# Altium schematic symbol library Interface_USB.SchLib: 96 symbols (part 1 of 2)
Pins are listed as number, name and electrical type; pins without a type are passive.

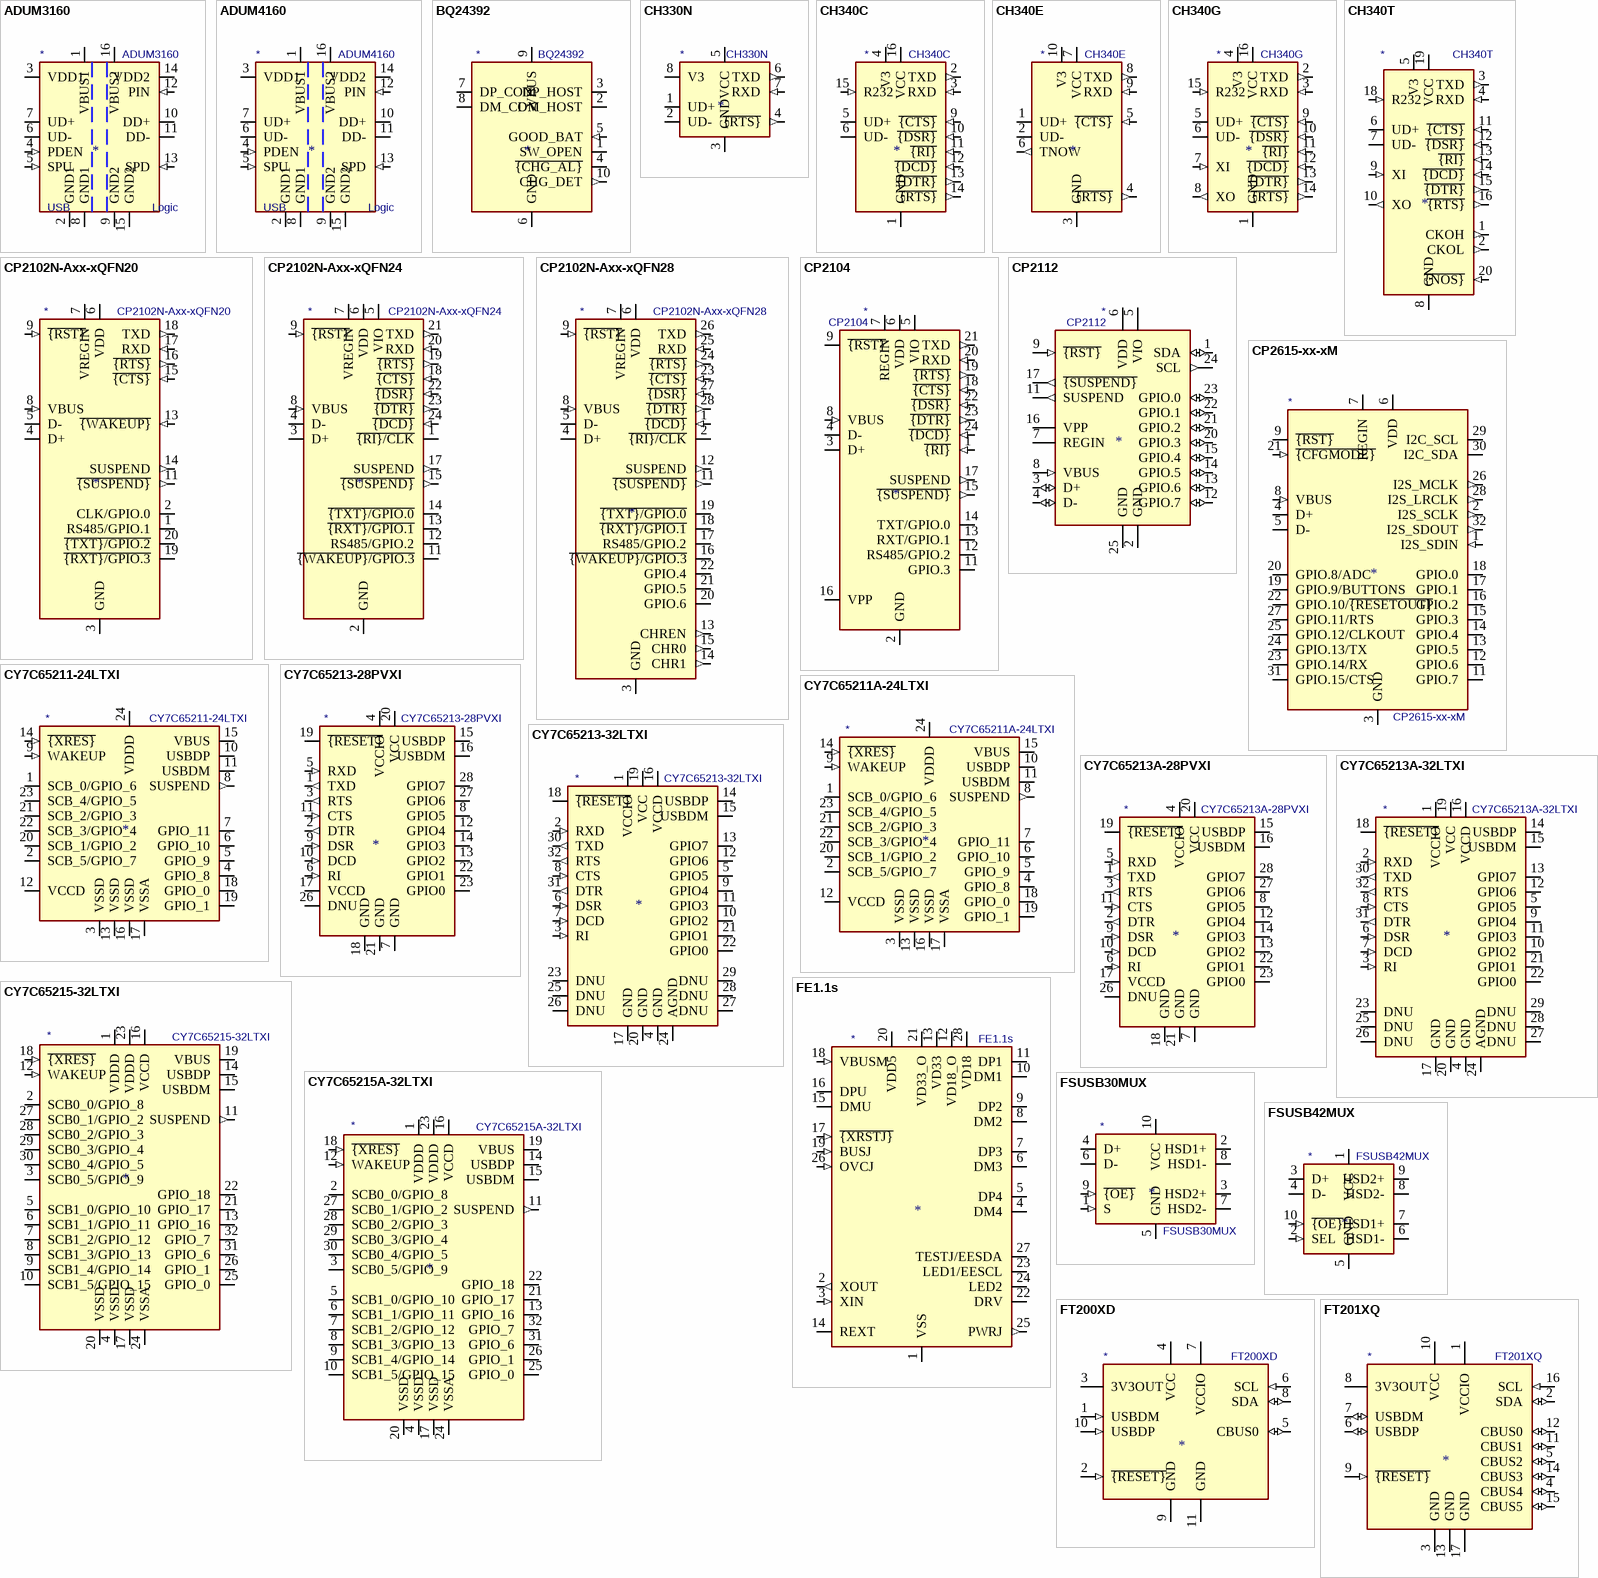
[diagram p0: symbols ADUM3160 to FT201XQ]

## ADUM3160
designator *  value ADUM3160
ki_keywords: usb isolation; ki_description: Full/Low Speed, iCoupler USB Digital Isolator, 2.5kV protection; ki_fp_filters: SOIC*7.5x10.3mm*P1.27mm*; Footprint: Package_SO:SOIC-16W_7.5x10.3mm_P1.27mm; Supplier: https://www.analog.com/media/en/technical-documentation/data-sheets/ADuM3160.pdf
footprint SOIC-16W_7.5x10.3mm_P1.27mm
pins: 1 VBUS1 (power), 2 GND1 (power), 3 VDD1 (power), 4 PDEN (in), 5 SPU (in), 6 UD- (io), 7 UD+ (io), 8 GND1 (power), 9 GND2 (power), 10 DD+ (io), 11 DD- (io), 12 PIN (in), 13 SPD (in), 14 VDD2 (power), 15 GND2 (power), 16 VBUS2 (power)
text: USB; Logic

## ADUM4160
designator *  value ADUM4160
ki_keywords: usb isolation; ki_description: Full/Low Speed, iCoupler USB Digital Isolator, 5kV protection, SOIC-16; ki_fp_filters: SOIC*7.5x10.3mm*P1.27mm*; Footprint: Package_SO:SOIC-16W_7.5x10.3mm_P1.27mm; Supplier: https://www.analog.com/media/en/technical-documentation/data-sheets/ADuM4160.pdf
footprint SOIC-16W_7.5x10.3mm_P1.27mm
pins: 1 VBUS1 (power), 2 GND1 (power), 3 VDD1 (power), 4 PDEN (in), 5 SPU (in), 6 UD- (io), 7 UD+ (io), 8 GND1 (power), 9 GND2 (power), 10 DD+ (io), 11 DD- (io), 12 PIN (in), 13 SPD (in), 14 VDD2 (power), 15 GND2 (power), 16 VBUS2 (power)
text: USB; Logic

## BQ24392
designator *  value BQ24392
ki_keywords: USB BC detector charger; ki_description: Dual SPST USB 2.0 High Speed Switch with USB Battery Charging Specification Revision 1.2 Detection, UQFN-10; ki_fp_filters: Texas*R*PUQFN*; Footprint: Package_DFN_QFN:Texas_R-PUQFN-N10; Supplier: http://www.ti.com/lit/ds/symlink/bq24392.pdf
footprint Texas_R-PUQFN-N10
pins: 1 SW_OPEN (oc), 2 DM_HOST (io), 3 DP_HOST (io), 4 ~{{CHG_AL}} (oc), 5 GOOD_BAT (in), 6 GND (power), 7 DP_CON (io), 8 DM_CON (io), 9 VBUS (power), 10 CHG_DET (out)

## CH330N
designator *  value CH330N
ki_keywords: usb uart wch serial; ki_description: USB serial converter, UART, SOIC-8; ki_fp_filters: SOIC*3.9x4.9mm*P1.27mm*; Footprint: Package_SO:SOIC-8_3.9x4.9mm_P1.27mm; Supplier: http://www.wch.cn/downloads/file/240.html
footprint SOIC-8_3.9x4.9mm_P1.27mm
pins: 1 UD+ (io), 2 UD- (io), 3 GND (power), 4 ~{{RTS}} (out), 5 VCC (power), 6 TXD (out), 7 RXD (in), 8 V3

## CH340C
designator *  value CH340C
ki_keywords: USB UART Serial Converter Interface; ki_description: USB serial converter, UART, SOIC-16; ki_fp_filters: SOIC*3.9x9.9mm*P1.27mm*; Footprint: Package_SO:SOIC-16_3.9x9.9mm_P1.27mm; Supplier: https://datasheet.lcsc.com/szlcsc/Jiangsu-Qin-Heng-CH340C_C84681.pdf
footprint SOIC-16_3.9x9.9mm_P1.27mm
pins: 1 GND (power), 2 TXD (out), 3 RXD (in), 4 V3, 5 UD+ (io), 6 UD- (io), 7 NC (in) hidden, 8 NC (in) hidden, 9 ~{{CTS}} (in), 10 ~{{DSR}} (in), 11 ~{{RI}} (in), 12 ~{{DCD}} (in), 13 ~{{DTR}} (out), 14 ~{{RTS}} (out), 15 R232 (in), 16 VCC (power)

## CH340E
designator *  value CH340E
ki_keywords: USB UART Serial Converter Interface; ki_description: USB serial converter, UART, MSOP-10; ki_fp_filters: MSOP*3x3mm*P0.5mm*; Footprint: Package_SO:MSOP-10_3x3mm_P0.5mm; Supplier: https://www.mpja.com/download/35227cpdata.pdf
footprint MSOP-10_3x3mm_P0.5mm
pins: 1 UD+ (io), 2 UD- (io), 3 GND (power), 4 ~{{RTS}} (out), 5 ~{{CTS}} (in), 6 TNOW (out), 7 VCC (power), 8 TXD (out), 9 RXD (in), 10 V3

## CH340G
designator *  value CH340G
ki_keywords: USB UART Serial Converter Interface; ki_description: USB serial converter, UART, SOIC-16; ki_fp_filters: SOIC*3.9x9.9mm*P1.27mm*; Footprint: Package_SO:SOIC-16_3.9x9.9mm_P1.27mm; Supplier: http://www.datasheet5.com/pdf-local-2195953
footprint SOIC-16_3.9x9.9mm_P1.27mm
pins: 1 GND (power), 2 TXD (out), 3 RXD (in), 4 V3, 5 UD+ (io), 6 UD- (io), 7 XI (in), 8 XO (out), 9 ~{{CTS}} (in), 10 ~{{DSR}} (in), 11 ~{{RI}} (in), 12 ~{{DCD}} (in), 13 ~{{DTR}} (out), 14 ~{{RTS}} (out), 15 R232 (in), 16 VCC (power)

## CH340T
designator *  value CH340T
ki_keywords: USB UART Serial Converter Interface; ki_description: USB serial converter, UART, SSOP-20; ki_fp_filters: SSOP*5.3x7.2mm*P0.65mm*; Footprint: Package_SO:SSOP-20_5.3x7.2mm_P0.65mm; Supplier: https://cdn.sparkfun.com/datasheets/Dev/Arduino/Other/CH340DS1.PDF
footprint SSOP-20_5.3x7.2mm_P0.65mm
pins: 1 CKOH (out), 2 CKOL (out), 3 TXD (out), 4 RXD (in), 5 V3, 6 UD+ (io), 7 UD- (io), 8 GND (power), 9 XI (in), 10 XO (out), 11 ~{{CTS}} (in), 12 ~{{DSR}} (in), 13 ~{{RI}} (in), 14 ~{{DCD}} (in), 15 ~{{DTR}} (out), 16 ~{{RTS}} (out), 17 NC (in) hidden, 18 R232 (in), 19 VCC (power), 20 ~{{NOS}} (in)

## CP2102N-Axx-xQFN20
designator *  value CP2102N-Axx-xQFN20
ki_keywords: USB UART bridge; ki_description: USB to UART master bridge, QFN-20; ki_fp_filters: SiliconLabs*QFN*3x3mm*P0.5mm*; Footprint: Package_DFN_QFN:SiliconLabs_QFN-20-1EP_3x3mm_P0.5mm; Supplier: https://www.silabs.com/documents/public/data-sheets/cp2102n-datasheet.pdf
footprint SiliconLabs_QFN-20-1EP_3x3mm_P0.5mm
pins: 1 RS485/GPIO.1 (io), 2 CLK/GPIO.0 (io), 3 GND (power), 4 D+ (io), 5 D- (io), 6 VDD (power), 7 VREGIN (power), 8 VBUS (in), 9 ~{{RST}} (in), 10 NC (in) hidden, 11 ~{{SUSPEND}} (out), 12 GND hidden, 13 ~{{WAKEUP}} (in), 14 SUSPEND (out), 15 ~{{CTS}} (in), 16 ~{{RTS}} (out), 17 RXD (in), 18 TXD (out), 19 ~{{RXT}/GPIO.3} (io), 20 ~{{TXT}/GPIO.2} (io), 21 GND hidden

## CP2102N-Axx-xQFN24
designator *  value CP2102N-Axx-xQFN24
ki_keywords: USB UART bridge; ki_description: USB to UART master bridge, QFN-24; ki_fp_filters: QFN*4x4mm*P0.5mm*; Footprint: Package_DFN_QFN:QFN-24-1EP_4x4mm_P0.5mm_EP2.6x2.6mm; Supplier: https://www.silabs.com/documents/public/data-sheets/cp2102n-datasheet.pdf
footprint QFN-24-1EP_4x4mm_P0.5mm_EP2.6x2.6mm
pins: 1 ~{{RI}/CLK} (io), 2 GND (power), 3 D+ (io), 4 D- (io), 5 VIO (power), 6 VDD (power), 7 VREGIN (power), 8 VBUS (in), 9 ~{{RST}} (in), 10 NC (in) hidden, 11 ~{{WAKEUP}/GPIO.3} (io), 12 RS485/GPIO.2 (io), 13 ~{{RXT}/GPIO.1} (io), 14 ~{{TXT}/GPIO.0} (io), 15 ~{{SUSPEND}} (out), 16 NC (in) hidden, 17 SUSPEND (out), 18 ~{{CTS}} (in), 19 ~{{RTS}} (out), 20 RXD (in), 21 TXD (out), 22 ~{{DSR}} (in), 23 ~{{DTR}} (out), 24 ~{{DCD}} (in), 25 GND hidden

## CP2102N-Axx-xQFN28
designator *  value CP2102N-Axx-xQFN28
ki_keywords: USB UART bridge; ki_description: USB to UART master bridge, QFN-28; ki_fp_filters: QFN*1EP*5x5mm*P0.5mm*; Footprint: Package_DFN_QFN:QFN-28-1EP_5x5mm_P0.5mm_EP3.35x3.35mm; Supplier: https://www.silabs.com/documents/public/data-sheets/cp2102n-datasheet.pdf
footprint QFN-28-1EP_5x5mm_P0.5mm_EP3.35x3.35mm
pins: 1 ~{{DCD}} (in), 2 ~{{RI}/CLK} (io), 3 GND (power), 4 D+ (io), 5 D- (io), 6 VDD (power), 7 VREGIN (power), 8 VBUS (in), 9 ~{{RST}} (in), 10 NC (in) hidden, 11 ~{{SUSPEND}} (out), 12 SUSPEND (out), 13 CHREN (out), 14 CHR1 (out), 15 CHR0 (out), 16 ~{{WAKEUP}/GPIO.3} (io), 17 RS485/GPIO.2 (io), 18 ~{{RXT}/GPIO.1} (io), 19 ~{{TXT}/GPIO.0} (io), 20 GPIO.6 (io), 21 GPIO.5 (io), 22 GPIO.4 (io), 23 ~{{CTS}} (in), 24 ~{{RTS}} (out), 25 RXD (in), 26 TXD (out), 27 ~{{DSR}} (in), 28 ~{{DTR}} (out), 29 GND hidden

## CP2104
designator *  value CP2104
ki_keywords: uart usb bridge interface transceiver; ki_description: Single-Chip USB-to-UART Bridge, USB 2.0 Full-Speed, 2Mbps UART, QFN-24; ki_fp_filters: QFN*4x4mm*P0.5mm*; Footprint: Package_DFN_QFN:QFN-24-1EP_4x4mm_P0.5mm_EP2.6x2.6mm; Supplier: https://www.silabs.com/documents/public/data-sheets/cp2104.pdf
footprint QFN-24-1EP_4x4mm_P0.5mm_EP2.6x2.6mm
pins: 1 ~{{RI}} (in), 2 GND (power), 3 D+ (io), 4 D- (io), 5 VIO (power), 6 VDD (power), 7 REGIN (power), 8 VBUS (in), 9 ~{{RST}} (io), 10 NC (in) hidden, 11 GPIO.3 (io), 12 RS485/GPIO.2 (io), 13 RXT/GPIO.1 (io), 14 TXT/GPIO.0 (io), 15 ~{{SUSPEND}} (out), 16 VPP, 17 SUSPEND (out), 18 ~{{CTS}} (in), 19 ~{{RTS}} (out), 20 RXD (in), 21 TXD (out), 22 ~{{DSR}} (in), 23 ~{{DTR}} (out), 24 ~{{DCD}} (in), 25 GND hidden

## CP2112
designator *  value CP2112
ki_keywords: USB SMBUS bridge; ki_description: HID USB to SMBUS master bridge; ki_fp_filters: QFN*4x4mm*P0.5mm*; Footprint: Package_DFN_QFN:QFN-24-1EP_4x4mm_P0.5mm_EP2.6x2.6mm; Supplier: https://www.silabs.com/documents/public/data-sheets/cp2112-datasheet.pdf
footprint QFN-24-1EP_4x4mm_P0.5mm_EP2.6x2.6mm
pins: 1 SDA (io), 2 GND (power), 3 D+ (io), 4 D- (io), 5 VIO (power), 6 VDD (power), 7 REGIN (power), 8 VBUS (in), 9 ~{{RST}} (in), 10 NC (in) hidden, 11 SUSPEND (out), 12 GPIO.7 (io), 13 GPIO.6 (io), 14 GPIO.5 (io), 15 GPIO.4 (io), 16 VPP (power), 17 ~{{SUSPEND}} (out), 18 NC (in) hidden, 19 NC (in) hidden, 20 GPIO.3 (io), 21 GPIO.2 (io), 22 GPIO.1 (io), 23 GPIO.0 (io), 24 SCL (out), 25 GND (power)

## CP2615-xx-xM
designator *  value CP2615-xx-xM
ki_keywords: usb i2s i2c uart audio bridge hid gpio; ki_description: USB to I2S bridge, USB 1.0 Audio Class, QFN-32; ki_fp_filters: QFN*1EP*5x5mm*P0.5mm*; Footprint: Package_DFN_QFN:QFN-32-1EP_5x5mm_P0.5mm_EP3.3x3.3mm; Supplier: https://www.silabs.com/documents/public/data-sheets/cp2615-datasheet.pdf
footprint QFN-32-1EP_5x5mm_P0.5mm_EP3.3x3.3mm
pins: 1 I2S_SDIN (in), 2 I2S_SCLK (out), 3 GND (power), 4 D+ (io), 5 D- (io), 6 VDD (power), 7 REGIN (power), 8 VBUS (in), 9 ~{{RST}} (io), 10 NC (in) hidden, 11 GPIO.7 (io), 12 GPIO.6 (io), 13 GPIO.5 (io), 14 GPIO.4 (io), 15 GPIO.3 (io), 16 GPIO.2 (io), 17 GPIO.1 (io), 18 GPIO.0 (io), 19 GPIO.9/BUTTONS (io), 20 GPIO.8/ADC (io), 21 ~{{CFGMODE}} (in), 22 GPIO.10/~{{RESETOUT}} (io), 23 GPIO.14/RX (io), 24 GPIO.13/TX (io), 25 GPIO.12/CLKOUT (io), 26 I2S_MCLK (out), 27 GPIO.11/RTS (io), 28 I2S_LRCLK (out), 29 I2C_SCL (io), 30 I2C_SDA (io), 31 GPIO.15/CTS (io), 32 I2S_SDOUT (out), 33 GND hidden

## CY7C65211-24LTXI
designator *  value CY7C65211-24LTXI
ki_keywords: USB-Serial single channel bridge; ki_description: USB-Serial single channel bridge with capsense and BCD, +1.71V to +5.5V VDD, UART/I2C/SPI/RS232/RS422, QFN-24; ki_fp_filters: QFN*1EP*4x4mm*P0.5mm*; Footprint: Package_DFN_QFN:QFN-24-1EP_4x4mm_P0.5mm_EP2.6x2.6mm; Supplier: http://www.cypress.com/file/139886/download
footprint QFN-24-1EP_4x4mm_P0.5mm_EP2.6x2.6mm
pins: 1 SCB_0/GPIO_6 (io), 2 SCB_5/GPIO_7 (io), 3 VSSD (power), 4 GPIO_8 (hiz), 5 GPIO_9 (hiz), 6 GPIO_10 (hiz), 7 GPIO_11 (hiz), 8 SUSPEND (out), 9 WAKEUP (in), 10 USBDP (io), 11 USBDM (io), 12 VCCD (power), 13 VSSD (power), 14 ~{{XRES}} (in), 15 VBUS (power), 16 VSSD (power), 17 VSSA (power), 18 GPIO_0 (hiz), 19 GPIO_1 (hiz), 20 SCB_1/GPIO_2 (io), 21 SCB_2/GPIO_3 (io), 22 SCB_3/GPIO_4 (io), 23 SCB_4/GPIO_5 (io), 24 VDDD (power), 25 1EP (in) hidden

## CY7C65211A-24LTXI
designator *  value CY7C65211A-24LTXI
ki_keywords: USB-Serial single channel bridge; ki_description: USB-Serial single channel bridge with capsense and BCD, +1.71V to +5.5V VDD, UART/I2C/SPI/RS232/RS422/RS485, QFN-24; ki_fp_filters: QFN*1EP*4x4mm*P0.5mm*; Footprint: Package_DFN_QFN:QFN-24-1EP_4x4mm_P0.5mm_EP2.6x2.6mm; Supplier: http://www.cypress.com/file/139886/download
footprint QFN-24-1EP_4x4mm_P0.5mm_EP2.6x2.6mm
pins: 1 SCB_0/GPIO_6 (io), 2 SCB_5/GPIO_7 (io), 3 VSSD (power), 4 GPIO_8 (hiz), 5 GPIO_9 (hiz), 6 GPIO_10 (hiz), 7 GPIO_11 (hiz), 8 SUSPEND (out), 9 WAKEUP (in), 10 USBDP (io), 11 USBDM (io), 12 VCCD (power), 13 VSSD (power), 14 ~{{XRES}} (in), 15 VBUS (power), 16 VSSD (power), 17 VSSA (power), 18 GPIO_0 (hiz), 19 GPIO_1 (hiz), 20 SCB_1/GPIO_2 (io), 21 SCB_2/GPIO_3 (io), 22 SCB_3/GPIO_4 (io), 23 SCB_4/GPIO_5 (io), 24 VDDD (power), 25 1EP (in) hidden

## CY7C65213-28PVXI
designator *  value CY7C65213-28PVXI
ki_keywords: USB-UART LP Bridge Controller, full speed 12Mbps; ki_description: USB-UART LP Bridge Controller, full speed 12Mbps, +1.71V to 5.5V VDD, UART/RS232/RS422, SSOP-28; ki_fp_filters: SSOP*5.3x10.2mm*P0.65mm*; Footprint: Package_SO:SSOP-28_5.3x10.2mm_P0.65mm; Supplier: http://www.cypress.com/file/139881/download
footprint SSOP-28_5.3x10.2mm_P0.65mm
pins: 1 TXD (out), 2 DTR (out), 3 RTS (out), 4 VCCIO (power), 5 RXD (in), 6 RI (in), 7 GND (power), 8 GPIO5 (hiz), 9 DSR (in), 10 DCD (in), 11 CTS (in), 12 GPIO4 (io), 13 GPIO2 (hiz), 14 GPIO3 (io), 15 USBDP (io), 16 USBDM (io), 17 VCCD, 18 GND (power), 19 ~{{RESET}} (io), 20 VCC (power), 21 GND (power), 22 GPIO1 (io), 23 GPIO0 (io), 24 NC (in) hidden, 25 NC (in) hidden, 26 DNU, 27 GPIO6 (hiz), 28 GPIO7 (hiz)

## CY7C65213-32LTXI
designator *  value CY7C65213-32LTXI
ki_keywords: USB-UART LP Bridge Controller, full speed 12Mbps; ki_description: USB-UART LP Bridge Controller, full speed 12Mbps, +1.71V to 5.5V VDD, UART/RS232/RS422, QFN-32; ki_fp_filters: QFN*1EP*5x5mm*P0.5mm*; Footprint: Package_DFN_QFN:QFN-32-1EP_5x5mm_P0.5mm_EP3.45x3.45mm; Supplier: http://www.cypress.com/file/139881/download
footprint QFN-32-1EP_5x5mm_P0.5mm_EP3.45x3.45mm
pins: 1 VCCIO (power), 2 RXD (in), 3 RI (in), 4 GND (power), 5 GPIO5 (hiz), 6 DSR (in), 7 DCD (in), 8 CTS (in), 9 GPIO4 (io), 10 GPIO2 (hiz), 11 GPIO3 (io), 12 GPIO6 (hiz), 13 GPIO7 (hiz), 14 USBDP (io), 15 USBDM (io), 16 VCCD, 17 GND (power), 18 ~{{RESET}} (io), 19 VCC (power), 20 GND (power), 21 GPIO1 (io), 22 GPIO0 (io), 23 DNU, 24 AGND (power), 25 DNU, 26 DNU, 27 DNU, 28 DNU, 29 DNU, 30 TXD (out), 31 DTR (out), 32 RTS (out), 33 1EP (in) hidden

## CY7C65213A-28PVXI
designator *  value CY7C65213A-28PVXI
ki_keywords: USB-UART LP Bridge Controller, full speed 12Mbps; ki_description: USB-UART LP Bridge Controller, full speed 12Mbps, +1.71V to 5.5V VDD, UART/RS232/RS422/RS485, SSOP-28; ki_fp_filters: SSOP*5.3x10.2mm*P0.65mm*; Footprint: Package_SO:SSOP-28_5.3x10.2mm_P0.65mm; Supplier: http://www.cypress.com/file/139881/download
footprint SSOP-28_5.3x10.2mm_P0.65mm
pins: 1 TXD (out), 2 DTR (out), 3 RTS (out), 4 VCCIO (power), 5 RXD (in), 6 RI (in), 7 GND (power), 8 GPIO5 (hiz), 9 DSR (in), 10 DCD (in), 11 CTS (in), 12 GPIO4 (io), 13 GPIO2 (hiz), 14 GPIO3 (io), 15 USBDP (io), 16 USBDM (io), 17 VCCD, 18 GND (power), 19 ~{{RESET}} (io), 20 VCC (power), 21 GND (power), 22 GPIO1 (io), 23 GPIO0 (io), 24 NC (in) hidden, 25 NC (in) hidden, 26 DNU, 27 GPIO6 (hiz), 28 GPIO7 (hiz)

## CY7C65213A-32LTXI
designator *  value CY7C65213A-32LTXI
ki_keywords: USB-UART LP Bridge Controller, full speed 12Mbps; ki_description: USB-UART LP Bridge Controller, full speed 12Mbps, +1.71V to 5.5V VDD, UART/RS232/RS422/RS485, QFN-32; ki_fp_filters: QFN*1EP*5x5mm*P0.5mm*; Footprint: Package_DFN_QFN:QFN-32-1EP_5x5mm_P0.5mm_EP3.45x3.45mm; Supplier: http://www.cypress.com/file/139881/download
footprint QFN-32-1EP_5x5mm_P0.5mm_EP3.45x3.45mm
pins: 1 VCCIO (power), 2 RXD (in), 3 RI (in), 4 GND (power), 5 GPIO5 (hiz), 6 DSR (in), 7 DCD (in), 8 CTS (in), 9 GPIO4 (io), 10 GPIO2 (hiz), 11 GPIO3 (io), 12 GPIO6 (hiz), 13 GPIO7 (hiz), 14 USBDP (io), 15 USBDM (io), 16 VCCD, 17 GND (power), 18 ~{{RESET}} (io), 19 VCC (power), 20 GND (power), 21 GPIO1 (io), 22 GPIO0 (io), 23 DNU, 24 AGND (power), 25 DNU, 26 DNU, 27 DNU, 28 DNU, 29 DNU, 30 TXD (out), 31 DTR (out), 32 RTS (out), 33 1EP (in) hidden

## CY7C65215-32LTXI
designator *  value CY7C65215-32LTXI
ki_keywords: USB-Serial single channel bridge; ki_description: USB-Serial Dual Channel Bridge with CapSense Full-Speed 12 Mbps, +1.71V to +5.5V VDD, UART/I2C/SPI/RS232/RS422/JTAG, QFN-32; ki_fp_filters: QFN*1EP*5x5mm*P0.5mm*; Footprint: Package_DFN_QFN:QFN-32-1EP_5x5mm_P0.5mm_EP3.45x3.45mm; Supplier: http://www.cypress.com/file/129956/download
footprint QFN-32-1EP_5x5mm_P0.5mm_EP3.45x3.45mm
pins: 1 VDDD (power), 2 SCB0_0/GPIO_8 (io), 3 SCB0_5/GPIO_9 (io), 4 VSSD (power), 5 SCB1_0/GPIO_10 (io), 6 SCB1_1/GPIO_11 (io), 7 SCB1_2/GPIO_12 (io), 8 SCB1_3/GPIO_13 (io), 9 SCB1_4/GPIO_14 (io), 10 SCB1_5/GPIO_15 (io), 11 SUSPEND (out), 12 WAKEUP (in), 13 GPIO_16 (hiz), 14 USBDP (io), 15 USBDM (io), 16 VCCD (power), 17 VSSD (power), 18 ~{{XRES}} (in), 19 VBUS (power), 20 VSSD (power), 21 GPIO_17 (hiz), 22 GPIO_18 (hiz), 23 VDDD (power), 24 VSSA (power), 25 GPIO_0 (io), 26 GPIO_1 (io), 27 SCB0_1/GPIO_2 (io), 28 SCB0_2/GPIO_3 (io), 29 SCB0_3/GPIO_4 (io), 30 SCB0_4/GPIO_5 (io), 31 GPIO_6 (io), 32 GPIO_7 (io), 33 1EP (in) hidden

## CY7C65215A-32LTXI
designator *  value CY7C65215A-32LTXI
ki_keywords: USB-Serial single channel bridge; ki_description: USB-Serial Dual Channel Bridge with CapSense, +1.71V to +5.5V VDD, UART/I2C/SPI/RS232/RS422/RS485/JTAG, QFN-32; ki_fp_filters: QFN*1EP*5x5mm*P0.5mm*; Footprint: Package_DFN_QFN:QFN-32-1EP_5x5mm_P0.5mm_EP3.45x3.45mm; Supplier: http://www.cypress.com/file/129956/download
footprint QFN-32-1EP_5x5mm_P0.5mm_EP3.45x3.45mm
pins: 1 VDDD (power), 2 SCB0_0/GPIO_8 (io), 3 SCB0_5/GPIO_9 (io), 4 VSSD (power), 5 SCB1_0/GPIO_10 (io), 6 SCB1_1/GPIO_11 (io), 7 SCB1_2/GPIO_12 (io), 8 SCB1_3/GPIO_13 (io), 9 SCB1_4/GPIO_14 (io), 10 SCB1_5/GPIO_15 (io), 11 SUSPEND (out), 12 WAKEUP (in), 13 GPIO_16 (hiz), 14 USBDP (io), 15 USBDM (io), 16 VCCD (power), 17 VSSD (power), 18 ~{{XRES}} (in), 19 VBUS (power), 20 VSSD (power), 21 GPIO_17 (hiz), 22 GPIO_18 (hiz), 23 VDDD (power), 24 VSSA (power), 25 GPIO_0 (io), 26 GPIO_1 (io), 27 SCB0_1/GPIO_2 (io), 28 SCB0_2/GPIO_3 (io), 29 SCB0_3/GPIO_4 (io), 30 SCB0_4/GPIO_5 (io), 31 GPIO_6 (io), 32 GPIO_7 (io), 33 1EP (in) hidden

## FE1.1s
designator *  value FE1.1s
ki_keywords: 4-Port, EEPROM, High Speed, Hub, USB2.0; ki_description: USB 2.0 High Speed 4-Port Hub Controller, SSOP-28; ki_fp_filters: SSOP*3.9x9.9mm*P0.635mm*; Footprint: Package_SO:SSOP-28_3.9x9.9mm_P0.635mm; Supplier: https://cdn-shop.adafruit.com/product-files/2991/FE1.1s+Data+Sheet+(Rev.+1.0).pdf
footprint SSOP-28_3.9x9.9mm_P0.635mm
pins: 1 VSS (power), 2 XOUT (out), 3 XIN (in), 4 DM4 (io), 5 DP4 (io), 6 DM3 (io), 7 DP3 (io), 8 DM2 (io), 9 DP2 (io), 10 DM1 (io), 11 DP1 (io), 12 VD18_O (power), 13 VD33 (power), 14 REXT, 15 DMU (io), 16 DPU (io), 17 ~{{XRSTJ}} (in), 18 VBUSM (in), 19 BUSJ (in), 20 VDD5 (power), 21 VD33_O (power), 22 DRV (io), 23 LED1/EESCL (io), 24 LED2 (io), 25 PWRJ (out), 26 OVCJ (in), 27 TESTJ/EESDA (io), 28 VD18 (power)

## FSUSB30MUX
designator *  value FSUSB30MUX
ki_keywords: USB 2.0 High Speed Switch; ki_description: Low-Power, Two-Port, High-Speed, USB2.0 (480Mbps) Switch, MSOP-10; ki_fp_filters: MSOP*3x3mm*P0.5mm*; Footprint: Package_SO:MSOP-10_3x3mm_P0.5mm; Supplier: https://www.onsemi.com/pdf/datasheet/fsusb30-d.pdf
footprint MSOP-10_3x3mm_P0.5mm
pins: 1 S (in), 2 HSD1+ (io), 3 HSD2+ (io), 4 D+ (io), 5 GND (power), 6 D- (io), 7 HSD2- (io), 8 HSD1- (io), 9 ~{{OE}} (in), 10 VCC (power)

## FSUSB42MUX
designator *  value FSUSB42MUX
ki_keywords: USB 2.0 UART High Speed Switch; ki_description: Low-Power, Two-Port, High-Speed, USB2.0 (480Mbps) or UART Switch, MSOP-10; ki_fp_filters: MSOP*3x3mm*P0.5mm*; Footprint: Package_SO:MSOP-10_3x3mm_P0.5mm; Supplier: https://www.onsemi.com/pub/Collateral/FSUSB42-D.PDF
footprint MSOP-10_3x3mm_P0.5mm
pins: 1 VCC (power), 2 SEL (in), 3 D+ (io), 4 D- (io), 5 GND (power), 6 HSD1- (io), 7 HSD1+ (io), 8 HSD2- (io), 9 HSD2+ (io), 10 ~{{OE}} (in)

## FT200XD
designator *  value FT200XD
ki_keywords: FTDI USB I2C Interface Converter; ki_description: Full Speed USB to I2C Bridge, DFN-10; ki_fp_filters: DFN*3x3mm*P0.5mm*; Footprint: Package_DFN_QFN:DFN-10-1EP_3x3mm_P0.5mm_EP1.55x2.48mm; Supplier: https://www.ftdichip.com/Support/Documents/DataSheets/ICs/DS_FT200XD.pdf
footprint DFN-10-1EP_3x3mm_P0.5mm_EP1.55x2.48mm
pins: 1 USBDM (in), 2 ~{{RESET}} (in), 3 3V3OUT (power), 4 VCC (power), 5 CBUS0 (io), 6 SCL (in), 7 VCCIO (power), 8 SDA (io), 9 GND (power), 10 USBDP (in), 11 GND (power)

## FT201XQ
designator *  value FT201XQ
ki_keywords: FTDI USB I2C interface Converter; ki_description: Full Speed USB to I2C Bridge, QFN-10; ki_fp_filters: QFN*1EP*4x4mm*P0.65mm*; Footprint: Package_DFN_QFN:QFN-16-1EP_4x4mm_P0.65mm_EP2.1x2.1mm; Supplier: https://www.ftdichip.com/Support/Documents/DataSheets/ICs/DS_FT201X.pdf
footprint QFN-16-1EP_4x4mm_P0.65mm_EP2.1x2.1mm
pins: 1 VCCIO (power), 2 SDA (io), 3 GND (power), 4 CBUS4 (io), 5 CBUS2 (io), 6 USBDP (io), 7 USBDM (io), 8 3V3OUT (power), 9 ~{{RESET}} (in), 10 VCC (power), 11 CBUS1 (io), 12 CBUS0 (io), 13 GND (power), 14 CBUS3 (io), 15 CBUS5 (io), 16 SCL (in), 17 GND (power)

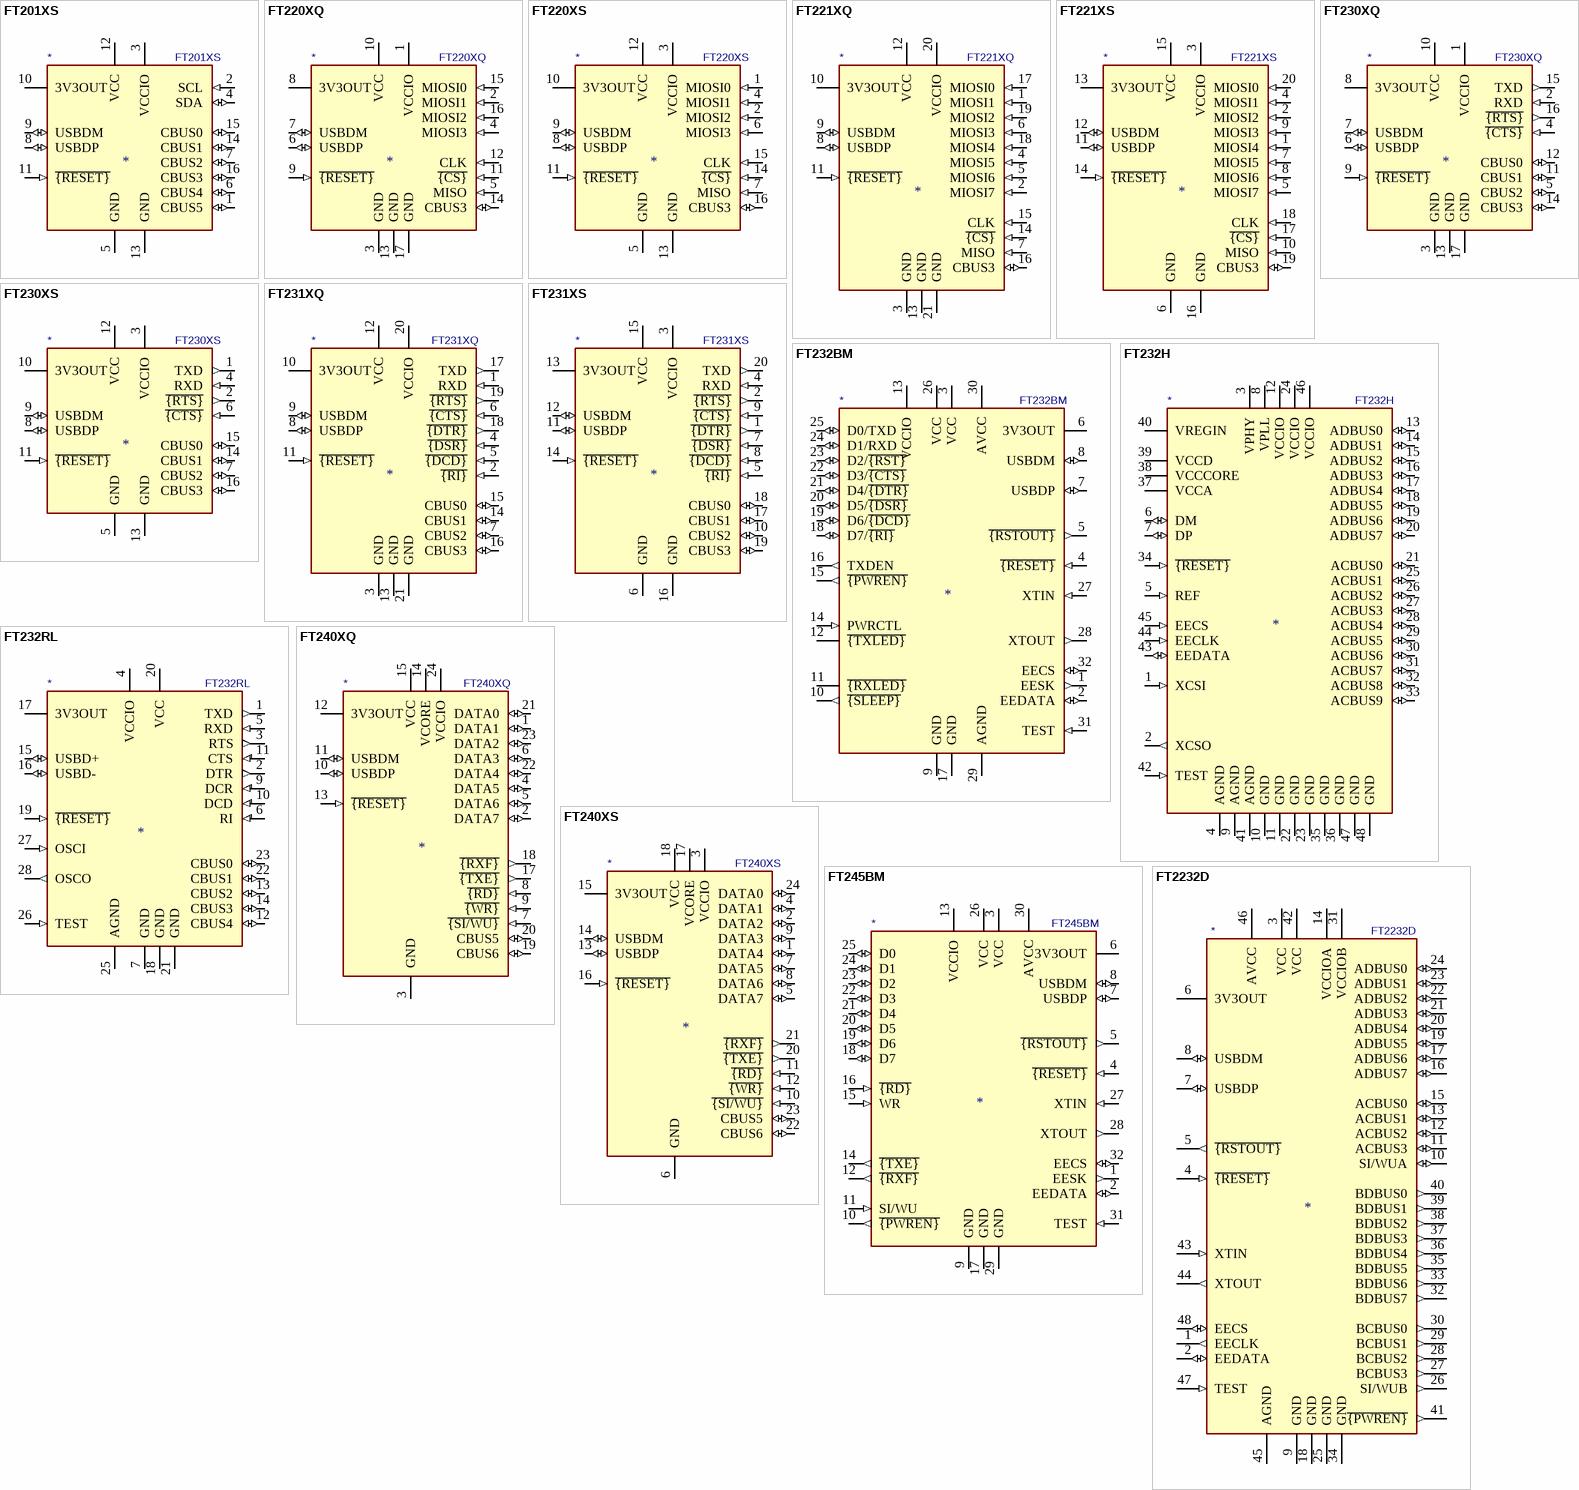
[diagram p1: symbols FT201XS to FT2232D]

## FT201XS
designator *  value FT201XS
ki_keywords: FTDI USB I2C Interface Converter; ki_description: Full Speed USB to I2C Bridge, SSOP-16; ki_fp_filters: SSOP*3.9x4.9mm*P0.635mm*; Footprint: Package_SO:SSOP-16_3.9x4.9mm_P0.635mm; Supplier: https://www.ftdichip.com/Support/Documents/DataSheets/ICs/DS_FT201X.pdf
footprint SSOP-16_3.9x4.9mm_P0.635mm
pins: 1 CBUS5 (io), 2 SCL (in), 3 VCCIO (power), 4 SDA (io), 5 GND (power), 6 CBUS4 (io), 7 CBUS2 (io), 8 USBDP (io), 9 USBDM (io), 10 3V3OUT (power), 11 ~{{RESET}} (in), 12 VCC (power), 13 GND (power), 14 CBUS1 (io), 15 CBUS0 (io), 16 CBUS3 (io)

## FT220XQ
designator *  value FT220XQ
ki_keywords: FTDI USB SPI FT1248 Interface Converter; ki_description: Full Speed USB to 4-Bit SPI / FT1248 Bridge, QFN-16; ki_fp_filters: QFN*1EP*4x4mm*P0.65mm*; Footprint: Package_DFN_QFN:QFN-16-1EP_4x4mm_P0.65mm_EP2.1x2.1mm; Supplier: https://www.ftdichip.com/Support/Documents/DataSheets/ICs/DS_FT220X.pdf
footprint QFN-16-1EP_4x4mm_P0.65mm_EP2.1x2.1mm
pins: 1 VCCIO (power), 2 MIOSI1 (in), 3 GND (power), 4 MIOSI3 (in), 5 MISO (in), 6 USBDP (io), 7 USBDM (io), 8 3V3OUT (power), 9 ~{{RESET}} (in), 10 VCC (power), 11 ~{{CS}} (in), 12 CLK (in), 13 GND (power), 14 CBUS3 (io), 15 MIOSI0 (in), 16 MIOSI2 (in), 17 GND (power)

## FT220XS
designator *  value FT220XS
ki_keywords: FTDI USB SPI FT1248 Interface Converter; ki_description: Full Speed USB to 4-Bit SPI / FT1248 Bridge, SSOP-16; ki_fp_filters: SSOP*3.9x4.9mm*P0.635mm*; Footprint: Package_SO:SSOP-16_3.9x4.9mm_P0.635mm; Supplier: https://www.ftdichip.com/Support/Documents/DataSheets/ICs/DS_FT220X.pdf
footprint SSOP-16_3.9x4.9mm_P0.635mm
pins: 1 MIOSI0 (in), 2 MIOSI2 (in), 3 VCCIO (power), 4 MIOSI1 (in), 5 GND (power), 6 MIOSI3 (in), 7 MISO (in), 8 USBDP (io), 9 USBDM (io), 10 3V3OUT (power), 11 ~{{RESET}} (in), 12 VCC (power), 13 GND (power), 14 ~{{CS}} (in), 15 CLK (in), 16 CBUS3 (io)

## FT221XQ
designator *  value FT221XQ
ki_keywords: FTDI USB SPI FT1248 interface converter; ki_description: Full Speed USB to 8-Bit SPI / FT1248 Bridge, QFN-20; ki_fp_filters: QFN*4x4mm*P0.5mm*; Footprint: Package_DFN_QFN:QFN-20-1EP_4x4mm_P0.5mm_EP2.5x2.5mm; Supplier: https://www.ftdichip.com/Support/Documents/DataSheets/ICs/DS_FT221X.pdf
footprint QFN-20-1EP_4x4mm_P0.5mm_EP2.5x2.5mm
pins: 1 MIOSI1 (in), 2 MIOSI7 (in), 3 GND (power), 4 MIOSI5 (in), 5 MIOSI6 (in), 6 MIOSI3 (in), 7 MISO (in), 8 USBDP (io), 9 USBDM (io), 10 3V3OUT (power), 11 ~{{RESET}} (in), 12 VCC (power), 13 GND (power), 14 ~{{CS}} (in), 15 CLK (in), 16 CBUS3 (io), 17 MIOSI0 (in), 18 MIOSI4 (in), 19 MIOSI2 (in), 20 VCCIO (power), 21 GND (power)

## FT221XS
designator *  value FT221XS
ki_keywords: FTDI USB SPI FT1248 interface converter; ki_description: Full Speed USB to 8-Bit SPI / FT1248 Bridge, SSOP-20; ki_fp_filters: SSOP*3.9x8.7mm*P0.635mm*; Footprint: Package_SO:SSOP-20_3.9x8.7mm_P0.635mm; Supplier: https://www.ftdichip.com/Support/Documents/DataSheets/ICs/DS_FT221X.pdf
footprint SSOP-20_3.9x8.7mm_P0.635mm
pins: 1 MIOSI4 (in), 2 MIOSI2 (in), 3 VCCIO (power), 4 MIOSI1 (in), 5 MIOSI7 (in), 6 GND (power), 7 MIOSI5 (in), 8 MIOSI6 (in), 9 MIOSI3 (in), 10 MISO (in), 11 USBDP (io), 12 USBDM (io), 13 3V3OUT (power), 14 ~{{RESET}} (in), 15 VCC (power), 16 GND (power), 17 ~{{CS}} (in), 18 CLK (in), 19 CBUS3 (io), 20 MIOSI0 (in)

## FT230XQ
designator *  value FT230XQ
ki_keywords: FTDI USB UART interface converter; ki_description: Full Speed USB to Basic UART, QFN-16; ki_fp_filters: QFN*1EP*4x4mm*P0.65mm*; Footprint: Package_DFN_QFN:QFN-16-1EP_4x4mm_P0.65mm_EP2.1x2.1mm; Supplier: https://www.ftdichip.com/Support/Documents/DataSheets/ICs/DS_FT230X.pdf
footprint QFN-16-1EP_4x4mm_P0.65mm_EP2.1x2.1mm
pins: 1 VCCIO (power), 2 RXD (in), 3 GND (power), 4 ~{{CTS}} (in), 5 CBUS2 (io), 6 USBDP (io), 7 USBDM (io), 8 3V3OUT (power), 9 ~{{RESET}} (in), 10 VCC (power), 11 CBUS1 (io), 12 CBUS0 (io), 13 GND (power), 14 CBUS3 (io), 15 TXD (out), 16 ~{{RTS}} (out), 17 GND (power)

## FT230XS
designator *  value FT230XS
ki_keywords: FTDI USB UART interface converter; ki_description: Full Speed USB to Basic UART, SSOP-16; ki_fp_filters: SSOP*3.9x4.9*P0.635mm*; Footprint: Package_SO:SSOP-16_3.9x4.9mm_P0.635mm; Supplier: https://www.ftdichip.com/Support/Documents/DataSheets/ICs/DS_FT230X.pdf
footprint SSOP-16_3.9x4.9mm_P0.635mm
pins: 1 TXD (out), 2 ~{{RTS}} (out), 3 VCCIO (power), 4 RXD (in), 5 GND (power), 6 ~{{CTS}} (in), 7 CBUS2 (io), 8 USBDP (io), 9 USBDM (io), 10 3V3OUT (power), 11 ~{{RESET}} (in), 12 VCC (power), 13 GND (power), 14 CBUS1 (io), 15 CBUS0 (io), 16 CBUS3 (io)

## FT231XQ
designator *  value FT231XQ
ki_keywords: FTDI USB UART interface converter; ki_description: Full Speed USB to Full Handshake UART, QFN-20; ki_fp_filters: QFN*4x4mm*P0.5mm*; Footprint: Package_DFN_QFN:QFN-20-1EP_4x4mm_P0.5mm_EP2.5x2.5mm; Supplier: https://www.ftdichip.com/Support/Documents/DataSheets/ICs/DS_FT231X.pdf
footprint QFN-20-1EP_4x4mm_P0.5mm_EP2.5x2.5mm
pins: 1 RXD (in), 2 ~{{RI}} (in), 3 GND (power), 4 ~{{DSR}} (in), 5 ~{{DCD}} (in), 6 ~{{CTS}} (in), 7 CBUS2 (io), 8 USBDP (io), 9 USBDM (io), 10 3V3OUT (power), 11 ~{{RESET}} (in), 12 VCC (power), 13 GND (power), 14 CBUS1 (io), 15 CBUS0 (io), 16 CBUS3 (io), 17 TXD (out), 18 ~{{DTR}} (out), 19 ~{{RTS}} (out), 20 VCCIO (power), 21 GND (power)

## FT231XS
designator *  value FT231XS
ki_keywords: FTDI USB UART interface converter; ki_description: Full Speed USB to Full Handshake UART, SSOP-20; ki_fp_filters: *SSOP*3.9x8.7mm*P0.635mm*; Footprint: Package_SO:SSOP-20_3.9x8.7mm_P0.635mm; Supplier: https://www.ftdichip.com/Support/Documents/DataSheets/ICs/DS_FT231X.pdf
footprint SSOP-20_3.9x8.7mm_P0.635mm
pins: 1 ~{{DTR}} (out), 2 ~{{RTS}} (out), 3 VCCIO (power), 4 RXD (in), 5 ~{{RI}} (in), 6 GND (power), 7 ~{{DSR}} (in), 8 ~{{DCD}} (in), 9 ~{{CTS}} (in), 10 CBUS2 (io), 11 USBDP (io), 12 USBDM (io), 13 3V3OUT (power), 14 ~{{RESET}} (in), 15 VCC (power), 16 GND (power), 17 CBUS1 (io), 18 CBUS0 (io), 19 CBUS3 (io), 20 TXD (out)

## FT232BM
designator *  value FT232BM
ki_keywords: FTDI USB Single UART FIFO; ki_description: Hi Speed Single Channel USB UART/FIFO, LQFP-32; ki_fp_filters: LQFP*7x7mm*P0.8mm*; Footprint: Package_QFP:LQFP-32_7x7mm_P0.8mm; Supplier: https://www.ftdichip.com/Support/Documents/DataSheets/ICs/DS_FT232BM.pdf
footprint LQFP-32_7x7mm_P0.8mm
pins: 1 EESK (out), 2 EEDATA (io), 3 VCC (power), 4 ~{{RESET}} (in), 5 ~{{RSTOUT}} (out), 6 3V3OUT (power), 7 USBDP (io), 8 USBDM (io), 9 GND (power), 10 ~{{SLEEP}} (out), 11 ~{{RXLED}} (oc), 12 ~{{TXLED}} (oc), 13 VCCIO (power), 14 PWRCTL (in), 15 ~{{PWREN}} (out), 16 TXDEN (out), 17 GND (power), 18 D7/~{{RI}} (io), 19 D6/~{{DCD}} (io), 20 D5/~{{DSR}} (io), 21 D4/~{{DTR}} (io), 22 D3/~{{CTS}} (io), 23 D2/~{{RST}} (io), 24 D1/RXD (io), 25 D0/TXD (io), 26 VCC (power), 27 XTIN (in), 28 XTOUT (out), 29 AGND (power), 30 AVCC (power), 31 TEST (in), 32 EECS (io)

## FT232H
designator *  value FT232H
ki_keywords: FTDI USB Single UART FIFO; ki_description: Hi Speed Single Channel USB UART/FIFO, LQFP/QFN-48; ki_fp_filters: QFN*1EP*8x8mm*P0.5mm* LQFP*7x7mm*P0.5mm*; Supplier: https://www.ftdichip.com/Support/Documents/DataSheets/ICs/DS_FT232H.pdf
pins: 1 XCSI (in), 2 XCSO (out), 3 VPHY (power), 4 AGND (power), 5 REF (in), 6 DM (io), 7 DP (io), 8 VPLL (power), 9 AGND (power), 10 GND (power), 11 GND (power), 12 VCCIO (power), 13 ADBUS0 (io), 14 ADBUS1 (io), 15 ADBUS2 (io), 16 ADBUS3 (io), 17 ADBUS4 (io), 18 ADBUS5 (io), 19 ADBUS6 (io), 20 ADBUS7 (io), 21 ACBUS0 (io), 22 GND (power), 23 GND (power), 24 VCCIO (power), 25 ACBUS1 (io), 26 ACBUS2 (io), 27 ACBUS3 (io), 28 ACBUS4 (io), 29 ACBUS5 (io), 30 ACBUS6 (io), 31 ACBUS7 (io), 32 ACBUS8 (io), 33 ACBUS9 (io), 34 ~{{RESET}} (in), 35 GND (power), 36 GND (power), 37 VCCA (power), 38 VCCCORE (power), 39 VCCD (power), 40 VREGIN (power), 41 AGND (power), 42 TEST (in), 43 EEDATA (io), 44 EECLK (in), 45 EECS (in), 46 VCCIO (power), 47 GND (power), 48 GND (power)

## FT232RL
designator *  value FT232RL
ki_keywords: FTDI USB Serial; ki_description: USB to Serial Interface, SSOP-28; ki_fp_filters: SSOP*5.3x10.2mm*P0.65mm*; Footprint: Package_SO:SSOP-28_5.3x10.2mm_P0.65mm; Supplier: https://www.ftdichip.com/Support/Documents/DataSheets/ICs/DS_FT232R.pdf
footprint SSOP-28_5.3x10.2mm_P0.65mm
pins: 1 TXD (out), 2 DTR (out), 3 RTS (out), 4 VCCIO (power), 5 RXD (in), 6 RI (in), 7 GND (power), 9 DCR (in), 10 DCD (in), 11 CTS (in), 12 CBUS4 (io), 13 CBUS2 (io), 14 CBUS3 (io), 15 USBD+ (io), 16 USBD- (io), 17 3V3OUT (power), 18 GND (power), 19 ~{{RESET}} (in), 20 VCC (power), 21 GND (power), 22 CBUS1 (io), 23 CBUS0 (io), 25 AGND (power), 26 TEST (in), 27 OSCI (in), 28 OSCO (out)

## FT240XQ
designator *  value FT240XQ
ki_keywords: FTDI USB FIFO interface converter; ki_description: Full Speed USB to 8-Bit FIFO, QFN-24; ki_fp_filters: QFN*4x4mm*P0.5mm*; Footprint: Package_DFN_QFN:QFN-24-1EP_4x4mm_P0.5mm_EP2.6x2.6mm; Supplier: https://www.ftdichip.com/Support/Documents/DataSheets/ICs/DS_FT240X.pdf
footprint QFN-24-1EP_4x4mm_P0.5mm_EP2.6x2.6mm
pins: 1 DATA1 (io), 2 DATA7 (io), 3 GND (power), 4 DATA5 (io), 5 DATA6 (io), 6 DATA3 (io), 7 ~{{SI/WU}} (in), 8 ~{{RD}} (in), 9 ~{{WR}} (in), 10 USBDP (io), 11 USBDM (io), 12 3V3OUT (power), 13 ~{{RESET}} (in), 14 VCORE (power), 15 VCC (power), 16 GND hidden, 17 ~{{TXE}} (out), 18 ~{{RXF}} (out), 19 CBUS6 (io), 20 CBUS5 (io), 21 DATA0 (io), 22 DATA4 (io), 23 DATA2 (io), 24 VCCIO (power), 25 GND hidden

## FT240XS
designator *  value FT240XS
ki_keywords: FTDI USB FIFO interface converter; ki_description: Full Speed USB to 8-Bit FIFO, SSOP-24; ki_fp_filters: SSOP*3.9x8.7mm*P0.635mm*; Footprint: Package_SO:SSOP-24_3.9x8.7mm_P0.635mm; Supplier: https://www.ftdichip.com/Support/Documents/DataSheets/ICs/DS_FT240X.pdf
footprint SSOP-24_3.9x8.7mm_P0.635mm
pins: 1 DATA4 (io), 2 DATA2 (io), 3 VCCIO (power), 4 DATA1 (io), 5 DATA7 (io), 6 GND (power), 7 DATA5 (io), 8 DATA6 (io), 9 DATA3 (io), 10 ~{{SI/WU}} (in), 11 ~{{RD}} (in), 12 ~{{WR}} (in), 13 USBDP (io), 14 USBDM (io), 15 3V3OUT (power), 16 ~{{RESET}} (in), 17 VCORE (power), 18 VCC (power), 19 GND hidden, 20 ~{{TXE}} (out), 21 ~{{RXF}} (out), 22 CBUS6 (io), 23 CBUS5 (io), 24 DATA0 (io)

## FT245BM
designator *  value FT245BM
ki_keywords: FTDI USB FIFO Interface Converter; ki_description: Full Speed USB to 8-Bit FIFO, LQFP-32; ki_fp_filters: LQFP*7x7mm*P0.8mm*; Footprint: Package_QFP:LQFP-32_7x7mm_P0.8mm; Supplier: https://www.ftdichip.com/Support/Documents/DataSheets/ICs/DS_FT245BM.pdf
footprint LQFP-32_7x7mm_P0.8mm
pins: 1 EESK (out), 2 EEDATA (io), 3 VCC (power), 4 ~{{RESET}} (in), 5 ~{{RSTOUT}} (out), 6 3V3OUT (power), 7 USBDP (io), 8 USBDM (io), 9 GND (power), 10 ~{{PWREN}} (out), 11 SI/WU (in), 12 ~{{RXF}} (out), 13 VCCIO (power), 14 ~{{TXE}} (out), 15 WR (in), 16 ~{{RD}} (in), 17 GND (power), 18 D7 (io), 19 D6 (io), 20 D5 (io), 21 D4 (io), 22 D3 (io), 23 D2 (io), 24 D1 (io), 25 D0 (io), 26 VCC (power), 27 XTIN (in), 28 XTOUT (out), 29 GND (power), 30 AVCC (power), 31 TEST (in), 32 EECS (io)

## FT2232D
designator *  value FT2232D
ki_keywords: USB Double UART FIFO; ki_description: Full Speed Double Channel USB UART/FIFO, LQFP-48; ki_fp_filters: LQFP*7x7mm*P0.5mm*; Footprint: Package_QFP:LQFP-48_7x7mm_P0.5mm; Supplier: http://www.ftdichip.com/Support/Documents/DataSheets/ICs/DS_FT2232D.pdf
footprint LQFP-48_7x7mm_P0.5mm
pins: 1 EECLK (out), 2 EEDATA (io), 3 VCC (power), 4 ~{{RESET}} (in), 5 ~{{RSTOUT}} (out), 6 3V3OUT (power), 7 USBDP (io), 8 USBDM (io), 9 GND (power), 10 SI/WUA (io), 11 ACBUS3 (io), 12 ACBUS2 (io), 13 ACBUS1 (io), 14 VCCIOA (power), 15 ACBUS0 (io), 16 ADBUS7 (io), 17 ADBUS6 (io), 18 GND (power), 19 ADBUS5 (io), 20 ADBUS4 (io), 21 ADBUS3 (io), 22 ADBUS2 (io), 23 ADBUS1 (io), 24 ADBUS0 (io), 25 GND (power), 26 SI/WUB (out), 27 BCBUS3 (out), 28 BCBUS2 (out), 29 BCBUS1 (out), 30 BCBUS0 (out), 31 VCCIOB (power), 32 BDBUS7 (out), 33 BDBUS6 (out), 34 GND (power), 35 BDBUS5 (out), 36 BDBUS4 (out), 37 BDBUS3 (out), 38 BDBUS2 (out), 39 BDBUS1 (out), 40 BDBUS0 (out), 41 ~{{PWREN}} (out), 42 VCC (power), 43 XTIN (in), 44 XTOUT (out), 45 AGND (power), 46 AVCC (power), 47 TEST (in), 48 EECS (io)

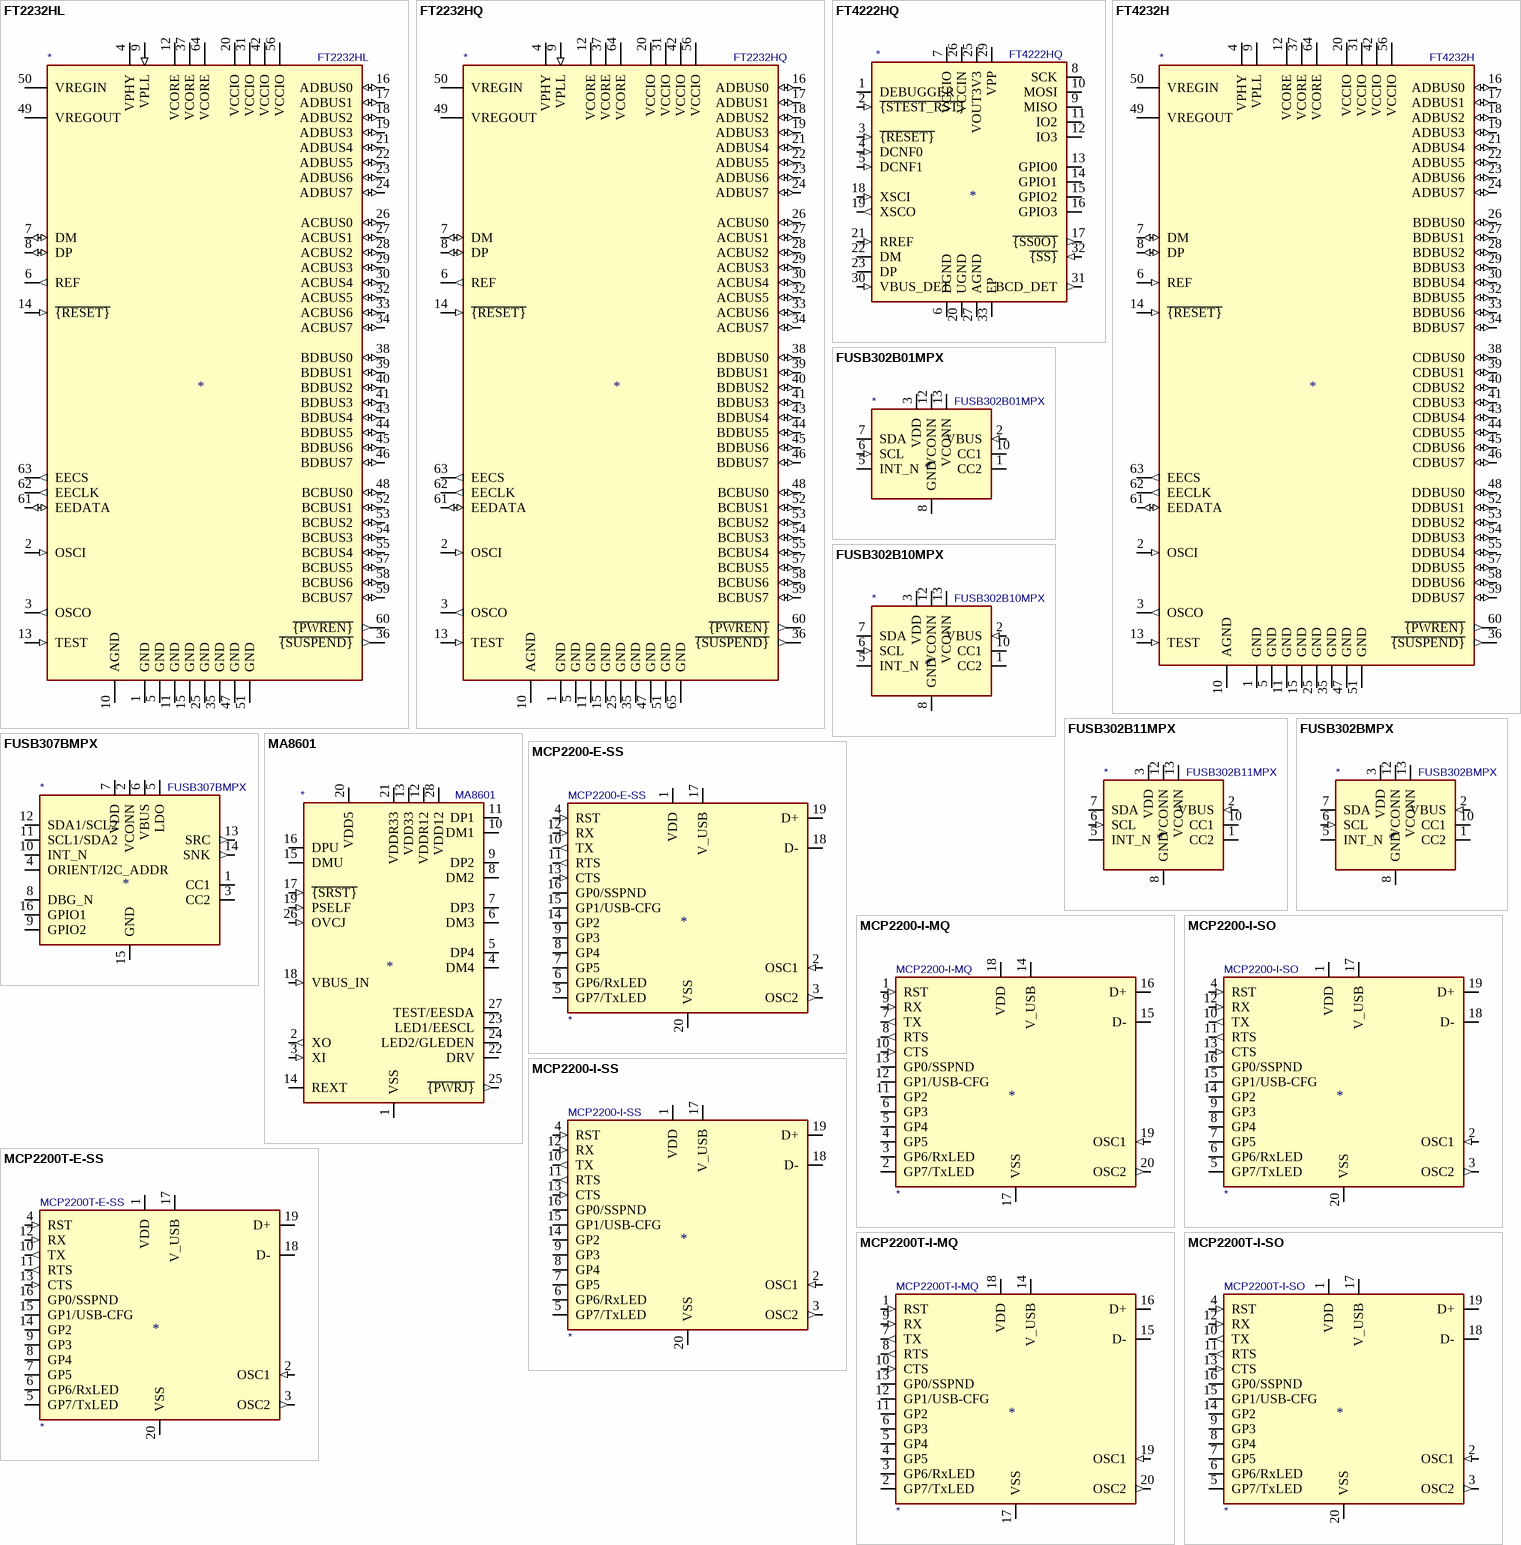
[diagram p2: symbols FT2232HL to MCP2200T-I-SO]

## FT2232HL
designator *  value FT2232HL
ki_keywords: USB Double UART FIFO; ki_description: Hi Speed Double Channel USB UART/FIFO, LQFP-64; ki_fp_filters: LQFP*10x10mm*P0.5mm*; Footprint: Package_QFP:LQFP-64_10x10mm_P0.5mm; Supplier: https://www.ftdichip.com/Support/Documents/DataSheets/ICs/DS_FT2232H.pdf
footprint LQFP-64_10x10mm_P0.5mm
pins: 1 GND (power), 2 OSCI (in), 3 OSCO (out), 4 VPHY (power), 5 GND (power), 6 REF (out), 7 DM (io), 8 DP (io), 9 VPLL (in), 10 AGND (power), 11 GND (power), 12 VCORE (power), 13 TEST (in), 14 ~{{RESET}} (in), 15 GND (power), 16 ADBUS0 (io), 17 ADBUS1 (io), 18 ADBUS2 (io), 19 ADBUS3 (io), 20 VCCIO (power), 21 ADBUS4 (io), 22 ADBUS5 (io), 23 ADBUS6 (io), 24 ADBUS7 (io), 25 GND (power), 26 ACBUS0 (io), 27 ACBUS1 (io), 28 ACBUS2 (io), 29 ACBUS3 (io), 30 ACBUS4 (io), 31 VCCIO (power), 32 ACBUS5 (io), 33 ACBUS6 (io), 34 ACBUS7 (io), 35 GND (power), 36 ~{{SUSPEND}} (out), 37 VCORE (power), 38 BDBUS0 (io), 39 BDBUS1 (io), 40 BDBUS2 (io), 41 BDBUS3 (io), 42 VCCIO (power), 43 BDBUS4 (io), 44 BDBUS5 (io), 45 BDBUS6 (io), 46 BDBUS7 (io), 47 GND (power), 48 BCBUS0 (io), 49 VREGOUT (power), 50 VREGIN (power), 51 GND (power), 52 BCBUS1 (io), 53 BCBUS2 (io), 54 BCBUS3 (io), 55 BCBUS4 (io), 56 VCCIO (power), 57 BCBUS5 (io), 58 BCBUS6 (io), 59 BCBUS7 (io), 60 ~{{PWREN}} (out), 61 EEDATA (io), 62 EECLK (out), 63 EECS (out), 64 VCORE (power)

## FT2232HQ
designator *  value FT2232HQ
ki_keywords: USB Double UART FIFO; ki_description: Hi Speed Double Channel USB UART/FIFO, QFN-64; ki_fp_filters: QFN*1EP*9x9mm*P0.5mm*; Footprint: Package_DFN_QFN:QFN-64-1EP_9x9mm_P0.5mm_EP4.35x4.35mm; Supplier: https://www.ftdichip.com/Support/Documents/DataSheets/ICs/DS_FT2232H.pdf
footprint QFN-64-1EP_9x9mm_P0.5mm_EP4.35x4.35mm
pins: 1 GND (power), 2 OSCI (in), 3 OSCO (out), 4 VPHY (power), 5 GND (power), 6 REF (out), 7 DM (io), 8 DP (io), 9 VPLL (in), 10 AGND (power), 11 GND (power), 12 VCORE (power), 13 TEST (in), 14 ~{{RESET}} (in), 15 GND (power), 16 ADBUS0 (io), 17 ADBUS1 (io), 18 ADBUS2 (io), 19 ADBUS3 (io), 20 VCCIO (power), 21 ADBUS4 (io), 22 ADBUS5 (io), 23 ADBUS6 (io), 24 ADBUS7 (io), 25 GND (power), 26 ACBUS0 (io), 27 ACBUS1 (io), 28 ACBUS2 (io), 29 ACBUS3 (io), 30 ACBUS4 (io), 31 VCCIO (power), 32 ACBUS5 (io), 33 ACBUS6 (io), 34 ACBUS7 (io), 35 GND (power), 36 ~{{SUSPEND}} (out), 37 VCORE (power), 38 BDBUS0 (io), 39 BDBUS1 (io), 40 BDBUS2 (io), 41 BDBUS3 (io), 42 VCCIO (power), 43 BDBUS4 (io), 44 BDBUS5 (io), 45 BDBUS6 (io), 46 BDBUS7 (io), 47 GND (power), 48 BCBUS0 (io), 49 VREGOUT (power), 50 VREGIN (power), 51 GND (power), 52 BCBUS1 (io), 53 BCBUS2 (io), 54 BCBUS3 (io), 55 BCBUS4 (io), 56 VCCIO (power), 57 BCBUS5 (io), 58 BCBUS6 (io), 59 BCBUS7 (io), 60 ~{{PWREN}} (out), 61 EEDATA (io), 62 EECLK (out), 63 EECS (out), 64 VCORE (power), 65 GND (power)

## FT4222HQ
designator *  value FT4222HQ
ki_keywords: USB SPI I2C FTDI Bridge Converter Interface; ki_description: USB 2.0 to Quad SPI or I2C Bridge, VQFN-32; ki_fp_filters: VQFN*5x5mm*P0.5mm*; Footprint: Package_DFN_QFN:VQFN-32-1EP_5x5mm_P0.5mm_EP3.1x3.1mm; Supplier: https://www.ftdichip.com/Support/Documents/DataSheets/ICs/DS_FT4222H.pdf
footprint VQFN-32-1EP_5x5mm_P0.5mm_EP3.1x3.1mm
pins: 1 DEBUGGER (io), 2 ~{{STEST_RST}} (in), 3 ~{{RESET}} (in), 4 DCNF0 (in), 5 DCNF1 (in), 6 DGND (power), 7 VCCIO (power), 8 SCK (io), 9 MISO (io), 10 MOSI (io), 11 IO2 (io), 12 IO3 (io), 13 GPIO0 (io), 14 GPIO1 (io), 15 GPIO2 (io), 16 GPIO3 (io), 17 ~{{SS0O}} (out), 18 XSCI (in), 19 XSCO (out), 20 UGND (power), 21 RREF (in), 22 DM (io), 23 DP (io), 24 UGND hidden, 25 VOUT3V3, 26 VCCIN (power), 27 AGND (power), 28 DGND hidden, 29 VPP (power), 30 VBUS_DET (in), 31 BCD_DET (out), 32 ~{{SS}} (in), 33 EP (power)

## FT4232H
designator *  value FT4232H
ki_keywords: FTDI USB Quad UART FIFO; ki_description: Hi Speed Quad Channel USB UART/FIFO, LQFP/QFN-64; ki_fp_filters: QFN*1EP*9x9mm*P0.5mm* LQFP*10x10mm*P0.5mm*; Supplier: https://www.ftdichip.com/Support/Documents/DataSheets/ICs/DS_FT4232H.pdf
pins: 1 GND (power), 2 OSCI (in), 3 OSCO (out), 4 VPHY (power), 5 GND (power), 6 REF (in), 7 DM (io), 8 DP (io), 9 VPLL (power), 10 AGND (power), 11 GND (power), 12 VCORE (power), 13 TEST (in), 14 ~{{RESET}} (in), 15 GND (power), 16 ADBUS0 (io), 17 ADBUS1 (io), 18 ADBUS2 (io), 19 ADBUS3 (io), 20 VCCIO (power), 21 ADBUS4 (io), 22 ADBUS5 (io), 23 ADBUS6 (io), 24 ADBUS7 (io), 25 GND (power), 26 BDBUS0 (io), 27 BDBUS1 (io), 28 BDBUS2 (io), 29 BDBUS3 (io), 30 BDBUS4 (io), 31 VCCIO (power), 32 BDBUS5 (io), 33 BDBUS6 (io), 34 BDBUS7 (io), 35 GND (power), 36 ~{{SUSPEND}} (out), 37 VCORE (power), 38 CDBUS0 (io), 39 CDBUS1 (io), 40 CDBUS2 (io), 41 CDBUS3 (io), 42 VCCIO (power), 43 CDBUS4 (io), 44 CDBUS5 (io), 45 CDBUS6 (io), 46 CDBUS7 (io), 47 GND (power), 48 DDBUS0 (io), 49 VREGOUT (power), 50 VREGIN (power), 51 GND (power), 52 DDBUS1 (io), 53 DDBUS2 (io), 54 DDBUS3 (io), 55 DDBUS4 (io), 56 VCCIO (power), 57 DDBUS5 (io), 58 DDBUS6 (io), 59 DDBUS7 (io), 60 ~{{PWREN}} (out), 61 EEDATA (io), 62 EECLK (out), 63 EECS (out), 64 VCORE (power)

## FUSB302B01MPX
designator *  value FUSB302B01MPX
ki_keywords: USB USB-C PD Power Delivery PHY; ki_description: Programmable USB Type-C Controller w/PD, I2C address 0x23, WQFN-14; ki_fp_filters: WQFN*2.5x2.5mm*P0.5mm*EP1.45x1.45mm*; Footprint: Package_DFN_QFN:WQFN-14-1EP_2.5x2.5mm_P0.5mm_EP1.45x1.45mm; Supplier: http://www.onsemi.com/pub/Collateral/FUSB302B-D.PDF
footprint WQFN-14-1EP_2.5x2.5mm_P0.5mm_EP1.45x1.45mm
pins: 1 CC2 (io), 2 VBUS (in), 3 VDD (power), 4 VDD hidden, 5 INT_N (oc), 6 SCL (in), 7 SDA (io), 8 GND (power), 9 GND hidden, 10 CC1 (io), 11 CC1 (io) hidden, 12 VCONN (power), 13 VCONN (power), 14 CC2 (io) hidden, 15 GND hidden

## FUSB302B10MPX
designator *  value FUSB302B10MPX
ki_keywords: USB USB-C PD Power Delivery PHY; ki_description: Programmable USB Type-C Controller w/PD, I2C address 0x24, WQFN-14; ki_fp_filters: WQFN*2.5x2.5mm*P0.5mm*EP1.45x1.45mm*; Footprint: Package_DFN_QFN:WQFN-14-1EP_2.5x2.5mm_P0.5mm_EP1.45x1.45mm; Supplier: http://www.onsemi.com/pub/Collateral/FUSB302B-D.PDF
footprint WQFN-14-1EP_2.5x2.5mm_P0.5mm_EP1.45x1.45mm
pins: 1 CC2 (io), 2 VBUS (in), 3 VDD (power), 4 VDD hidden, 5 INT_N (oc), 6 SCL (in), 7 SDA (io), 8 GND (power), 9 GND hidden, 10 CC1 (io), 11 CC1 (io) hidden, 12 VCONN (power), 13 VCONN (power), 14 CC2 (io) hidden, 15 GND hidden

## FUSB302B11MPX
designator *  value FUSB302B11MPX
ki_keywords: USB USB-C PD Power Delivery PHY; ki_description: Programmable USB Type-C Controller w/PD, I2C address 0x25, WQFN-14; ki_fp_filters: WQFN*2.5x2.5mm*P0.5mm*EP1.45x1.45mm*; Footprint: Package_DFN_QFN:WQFN-14-1EP_2.5x2.5mm_P0.5mm_EP1.45x1.45mm; Supplier: http://www.onsemi.com/pub/Collateral/FUSB302B-D.PDF
footprint WQFN-14-1EP_2.5x2.5mm_P0.5mm_EP1.45x1.45mm
pins: 1 CC2 (io), 2 VBUS (in), 3 VDD (power), 4 VDD hidden, 5 INT_N (oc), 6 SCL (in), 7 SDA (io), 8 GND (power), 9 GND hidden, 10 CC1 (io), 11 CC1 (io) hidden, 12 VCONN (power), 13 VCONN (power), 14 CC2 (io) hidden, 15 GND hidden

## FUSB302BMPX
designator *  value FUSB302BMPX
ki_keywords: USB USB-C PD Power Delivery PHY; ki_description: Programmable USB Type-C Controller w/PD, I2C address 0x22, WQFN-14; ki_fp_filters: WQFN*2.5x2.5mm*P0.5mm*EP1.45x1.45mm*; Footprint: Package_DFN_QFN:WQFN-14-1EP_2.5x2.5mm_P0.5mm_EP1.45x1.45mm; Supplier: http://www.onsemi.com/pub/Collateral/FUSB302B-D.PDF
footprint WQFN-14-1EP_2.5x2.5mm_P0.5mm_EP1.45x1.45mm
pins: 1 CC2 (io), 2 VBUS (in), 3 VDD (power), 4 VDD hidden, 5 INT_N (oc), 6 SCL (in), 7 SDA (io), 8 GND (power), 9 GND hidden, 10 CC1 (io), 11 CC1 (io) hidden, 12 VCONN (power), 13 VCONN (power), 14 CC2 (io) hidden, 15 GND hidden

## FUSB307BMPX
designator *  value FUSB307BMPX
ki_keywords: USB USB-C PD Power Delivery PHY TCPC; ki_description: USB Type-C Port Controller with USB-PD, WQFN-16; ki_fp_filters: WQFN*3x3mm*P0.5mm*EP1.75x1.75mm*; Footprint: Package_DFN_QFN:WQFN-16-1EP_3x3mm_P0.5mm_EP1.75x1.75mm; Supplier: http://www.onsemi.com/pub/Collateral/FUSB307B-D.PDF
footprint WQFN-16-1EP_3x3mm_P0.5mm_EP1.75x1.75mm
pins: 1 CC1 (io), 2 VCONN (power), 3 CC2 (io), 4 ORIENT/I2C_ADDR (hiz), 5 LDO (power), 6 VBUS (power), 7 VDD (power), 8 DBG_N (oc), 9 GPIO2 (io), 10 INT_N (oc), 11 SCL1/SDA2 (io), 12 SDA1/SCL2 (io), 13 SRC (out), 14 SNK (out), 15 GND (power), 16 GPIO1 (io), 17 GND hidden

## MA8601
designator *  value MA8601
ki_keywords: 4-Port, EEPROM, High Speed, Hub, USB2.0; ki_description: USB 2.0 High Speed 4-Port Hub Controller, SSOP-28; ki_fp_filters: SSOP*3.9x9.9mm*P0.635mm*; Footprint: Package_SO:SSOP-28_3.9x9.9mm_P0.635mm; Supplier: https://datasheetspdf.com/pdf-file/1312067/Prolific/MA8601/1
footprint SSOP-28_3.9x9.9mm_P0.635mm
pins: 1 VSS (power), 2 XO (out), 3 XI (in), 4 DM4 (io), 5 DP4 (io), 6 DM3 (io), 7 DP3 (io), 8 DM2 (io), 9 DP2 (io), 10 DM1 (io), 11 DP1 (io), 12 VDDR12 (power), 13 VDD33 (power), 14 REXT, 15 DMU (io), 16 DPU (io), 17 ~{{SRST}} (in), 18 VBUS_IN (in), 19 PSELF (in), 20 VDD5 (power), 21 VDDR33 (power), 22 DRV (io), 23 LED1/EESCL (io), 24 LED2/GLEDEN (io), 25 ~{{PWRJ}} (out), 26 OVCJ (in), 27 TEST/EESDA (io), 28 VDD12 (power)

## MCP2200-E-SS
designator *  value MCP2200-E-SS
ki_keywords: USB UART Converter; ki_description: USB 2.0 to UART Protocol Converter with GPIO, Extended Temperature Range, SSOP-20; ki_fp_filters: SSOP*20*5.3x7.2mm*P0.65mm*; Footprint: Package_SO:SSOP-20_5.3x7.2mm_P0.65mm; Supplier: http://ww1.microchip.com/downloads/en/DeviceDoc/200022228D.pdf
footprint SSOP-20_5.3x7.2mm_P0.65mm
pins: 1 VDD (power), 2 OSC1 (in), 3 OSC2 (out), 4 RST (in), 5 GP7/TxLED (io), 6 GP6/RxLED (io), 7 GP5 (io), 8 GP4 (io), 9 GP3 (io), 10 TX (out), 11 RTS (out), 12 RX (in), 13 CTS (in), 14 GP2 (io), 15 GP1/USB-CFG (io), 16 GP0/SSPND (io), 17 V_USB (power), 18 D- (io), 19 D+ (io), 20 VSS (power)

## MCP2200-I-MQ
designator *  value MCP2200-I-MQ
ki_keywords: USB UART Converter; ki_description: USB 2.0 to UART Protocol Converter with GPIO, QFN-20; ki_fp_filters: QFN*20*1EP*5x5mm*P0.65mm*; Footprint: Package_DFN_QFN:QFN-20-1EP_5x5mm_P0.65mm_EP3.35x3.35mm; Supplier: http://ww1.microchip.com/downloads/en/DeviceDoc/200022228D.pdf
footprint QFN-20-1EP_5x5mm_P0.65mm_EP3.35x3.35mm
pins: 1 RST (in), 2 GP7/TxLED (io), 3 GP6/RxLED (io), 4 GP5 (io), 5 GP4 (io), 6 GP3 (io), 7 TX (out), 8 RTS (out), 9 RX (in), 10 CTS (in), 11 GP2 (io), 12 GP1/USB-CFG (io), 13 GP0/SSPND (io), 14 V_USB (power), 15 D- (io), 16 D+ (io), 17 VSS (power), 18 VDD (power), 19 OSC1 (in), 20 OSC2 (out), 21 EP (in) hidden

## MCP2200-I-SO
designator *  value MCP2200-I-SO
ki_keywords: USB UART Converter; ki_description: USB 2.0 to UART Protocol Converter with GPIO, SOIC-20; ki_fp_filters: SOIC*20*7.5x12.8mm*P1.27mm*; Footprint: Package_SO:SOIC-20W_7.5x12.8mm_P1.27mm; Supplier: http://ww1.microchip.com/downloads/en/DeviceDoc/200022228D.pdf
footprint SOIC-20W_7.5x12.8mm_P1.27mm
pins: 1 VDD (power), 2 OSC1 (in), 3 OSC2 (out), 4 RST (in), 5 GP7/TxLED (io), 6 GP6/RxLED (io), 7 GP5 (io), 8 GP4 (io), 9 GP3 (io), 10 TX (out), 11 RTS (out), 12 RX (in), 13 CTS (in), 14 GP2 (io), 15 GP1/USB-CFG (io), 16 GP0/SSPND (io), 17 V_USB (power), 18 D- (io), 19 D+ (io), 20 VSS (power)

## MCP2200-I-SS
designator *  value MCP2200-I-SS
ki_keywords: USB UART Converter; ki_description: USB 2.0 to UART Protocol Converter with GPIO, SSOP-20; ki_fp_filters: SSOP*20*5.3x7.2mm*P0.65mm*; Footprint: Package_SO:SSOP-20_5.3x7.2mm_P0.65mm; Supplier: http://ww1.microchip.com/downloads/en/DeviceDoc/200022228D.pdf
footprint SSOP-20_5.3x7.2mm_P0.65mm
pins: 1 VDD (power), 2 OSC1 (in), 3 OSC2 (out), 4 RST (in), 5 GP7/TxLED (io), 6 GP6/RxLED (io), 7 GP5 (io), 8 GP4 (io), 9 GP3 (io), 10 TX (out), 11 RTS (out), 12 RX (in), 13 CTS (in), 14 GP2 (io), 15 GP1/USB-CFG (io), 16 GP0/SSPND (io), 17 V_USB (power), 18 D- (io), 19 D+ (io), 20 VSS (power)

## MCP2200T-E-SS
designator *  value MCP2200T-E-SS
ki_keywords: USB UART Converter; ki_description: USB 2.0 to UART Protocol Converter with GPIO, Extended Temperature Range, TnR, SSOP-20; ki_fp_filters: SSOP*20*5.3x7.2mm*P0.65mm*; Footprint: Package_SO:SSOP-20_5.3x7.2mm_P0.65mm; Supplier: http://ww1.microchip.com/downloads/en/DeviceDoc/200022228D.pdf
footprint SSOP-20_5.3x7.2mm_P0.65mm
pins: 1 VDD (power), 2 OSC1 (in), 3 OSC2 (out), 4 RST (in), 5 GP7/TxLED (io), 6 GP6/RxLED (io), 7 GP5 (io), 8 GP4 (io), 9 GP3 (io), 10 TX (out), 11 RTS (out), 12 RX (in), 13 CTS (in), 14 GP2 (io), 15 GP1/USB-CFG (io), 16 GP0/SSPND (io), 17 V_USB (power), 18 D- (io), 19 D+ (io), 20 VSS (power)

## MCP2200T-I-MQ
designator *  value MCP2200T-I-MQ
ki_keywords: USB UART Converter; ki_description: USB 2.0 to UART Protocol Converter with GPIO, TnR, QFN-20; ki_fp_filters: QFN*20*1EP*5x5mm*P0.65mm*; Footprint: Package_DFN_QFN:QFN-20-1EP_5x5mm_P0.65mm_EP3.35x3.35mm; Supplier: http://ww1.microchip.com/downloads/en/DeviceDoc/200022228D.pdf
footprint QFN-20-1EP_5x5mm_P0.65mm_EP3.35x3.35mm
pins: 1 RST (in), 2 GP7/TxLED (io), 3 GP6/RxLED (io), 4 GP5 (io), 5 GP4 (io), 6 GP3 (io), 7 TX (out), 8 RTS (out), 9 RX (in), 10 CTS (in), 11 GP2 (io), 12 GP1/USB-CFG (io), 13 GP0/SSPND (io), 14 V_USB (power), 15 D- (io), 16 D+ (io), 17 VSS (power), 18 VDD (power), 19 OSC1 (in), 20 OSC2 (out), 21 EP (in) hidden

## MCP2200T-I-SO
designator *  value MCP2200T-I-SO
ki_keywords: USB UART Converter; ki_description: USB 2.0 to UART Protocol Converter with GPIO,TnR,SOIC; ki_fp_filters: SOIC*20*7.5x12.8mm*P1.27mm*; Footprint: Package_SO:SOIC-20W_7.5x12.8mm_P1.27mm; Supplier: http://ww1.microchip.com/downloads/en/DeviceDoc/200022228D.pdf
footprint SOIC-20W_7.5x12.8mm_P1.27mm
pins: 1 VDD (power), 2 OSC1 (in), 3 OSC2 (out), 4 RST (in), 5 GP7/TxLED (io), 6 GP6/RxLED (io), 7 GP5 (io), 8 GP4 (io), 9 GP3 (io), 10 TX (out), 11 RTS (out), 12 RX (in), 13 CTS (in), 14 GP2 (io), 15 GP1/USB-CFG (io), 16 GP0/SSPND (io), 17 V_USB (power), 18 D- (io), 19 D+ (io), 20 VSS (power)

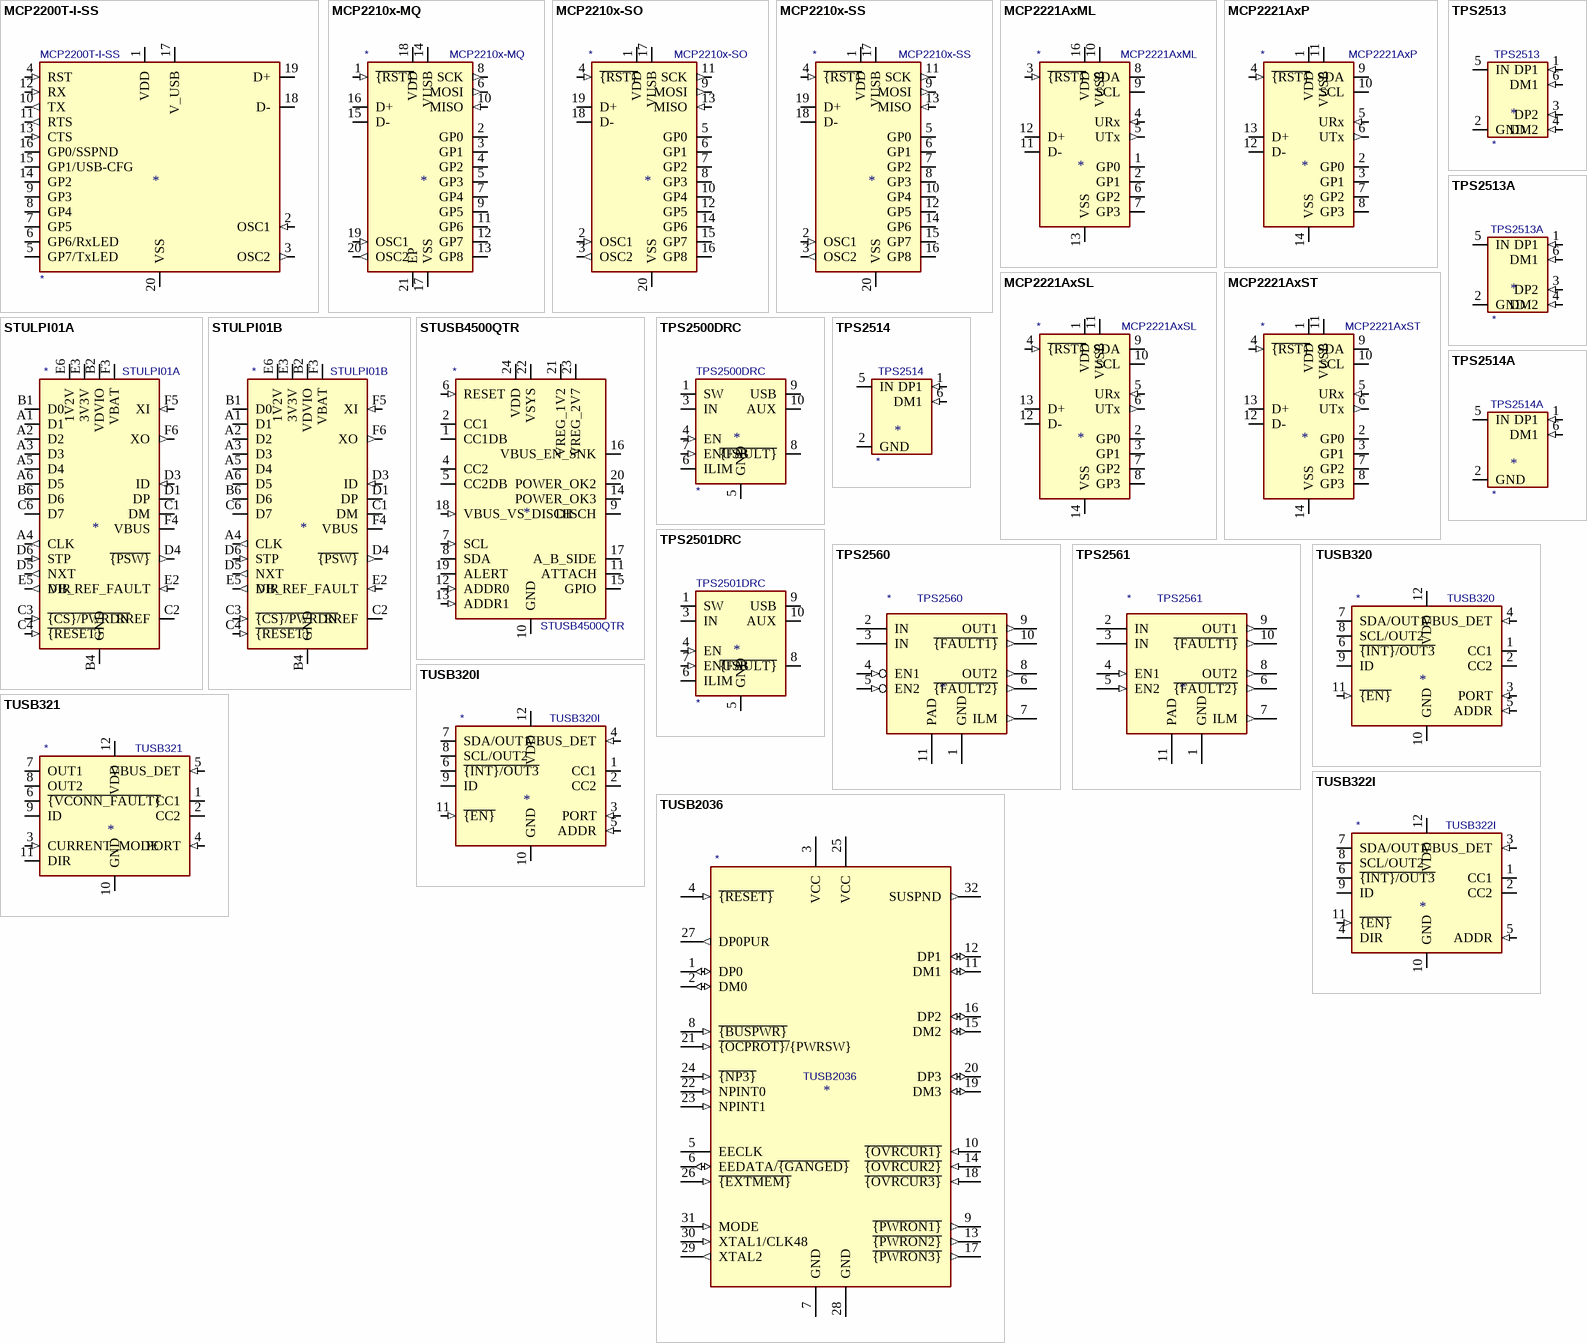
[diagram p3: symbols MCP2200T-I-SS to TUSB2036]

## MCP2200T-I-SS
designator *  value MCP2200T-I-SS
ki_keywords: USB UART Converter; ki_description: USB 2.0 to UART Protocol Converter with GPIO, TnR, SSOP-20; ki_fp_filters: SSOP*20*5.3x7.2mm*P0.65mm*; Footprint: Package_SO:SSOP-20_5.3x7.2mm_P0.65mm; Supplier: http://ww1.microchip.com/downloads/en/DeviceDoc/200022228D.pdf
footprint SSOP-20_5.3x7.2mm_P0.65mm
pins: 1 VDD (power), 2 OSC1 (in), 3 OSC2 (out), 4 RST (in), 5 GP7/TxLED (io), 6 GP6/RxLED (io), 7 GP5 (io), 8 GP4 (io), 9 GP3 (io), 10 TX (out), 11 RTS (out), 12 RX (in), 13 CTS (in), 14 GP2 (io), 15 GP1/USB-CFG (io), 16 GP0/SSPND (io), 17 V_USB (power), 18 D- (io), 19 D+ (io), 20 VSS (power)

## MCP2210x-MQ
designator *  value MCP2210x-MQ
ki_keywords: USB SPI Master Converter Bridge; ki_description: USB to SPI Protocol Converter with GPIO, QFN-20; ki_fp_filters: QFN*1EP*5x5mm*P0.65mm*; Footprint: Package_DFN_QFN:QFN-20-1EP_5x5mm_P0.65mm_EP3.35x3.35mm; Supplier: https://ww1.microchip.com/downloads/en/DeviceDoc/22288A.pdf
footprint QFN-20-1EP_5x5mm_P0.65mm_EP3.35x3.35mm
pins: 1 ~{{RST}} (in), 2 GP0 (io), 3 GP1 (io), 4 GP2 (io), 5 GP3 (io), 6 MOSI (out), 7 GP4 (io), 8 SCK (out), 9 GP5 (io), 10 MISO (in), 11 GP6 (io), 12 GP7 (io), 13 GP8 (io), 14 VUSB, 15 D- (io), 16 D+ (io), 17 VSS (power), 18 VDD (power), 19 OSC1 (in), 20 OSC2 (out), 21 EP

## MCP2210x-SO
designator *  value MCP2210x-SO
ki_keywords: USB SPI Master Converter Bridge; ki_description: USB to SPI Protocol Converter with GPIO, SOIC-20; ki_fp_filters: SOIC*7.5x12.8mm*P1.27mm*; Footprint: Package_SO:SOIC-20W_7.5x12.8mm_P1.27mm; Supplier: https://ww1.microchip.com/downloads/en/DeviceDoc/22288A.pdf
footprint SOIC-20W_7.5x12.8mm_P1.27mm
pins: 1 VDD (power), 2 OSC1 (in), 3 OSC2 (out), 4 ~{{RST}} (in), 5 GP0 (io), 6 GP1 (io), 7 GP2 (io), 8 GP3 (io), 9 MOSI (out), 10 GP4 (io), 11 SCK (out), 12 GP5 (io), 13 MISO (in), 14 GP6 (io), 15 GP7 (io), 16 GP8 (io), 17 VUSB, 18 D- (io), 19 D+ (io), 20 VSS (power)

## MCP2210x-SS
designator *  value MCP2210x-SS
ki_keywords: USB SPI Master Converter Bridge; ki_description: USB to SPI Protocol Converter with GPIO, SSOP-20; ki_fp_filters: SSOP*5.3x7.2mm*P0.65mm*; Footprint: Package_SO:SSOP-20_5.3x7.2mm_P0.65mm; Supplier: https://ww1.microchip.com/downloads/en/DeviceDoc/22288A.pdf
footprint SSOP-20_5.3x7.2mm_P0.65mm
pins: 1 VDD (power), 2 OSC1 (in), 3 OSC2 (out), 4 ~{{RST}} (in), 5 GP0 (io), 6 GP1 (io), 7 GP2 (io), 8 GP3 (io), 9 MOSI (out), 10 GP4 (io), 11 SCK (out), 12 GP5 (io), 13 MISO (in), 14 GP6 (io), 15 GP7 (io), 16 GP8 (io), 17 VUSB, 18 D- (io), 19 D+ (io), 20 VSS (power)

## MCP2221AxML
designator *  value MCP2221AxML
ki_keywords: USB I2C UART Converter Bridge; ki_description: USB to I2C/UART Protocol Converter with GPIO, QFN-16; ki_fp_filters: QFN*1EP*4x4mm*P0.65mm*; Footprint: Package_DFN_QFN:QFN-16-1EP_4x4mm_P0.65mm_EP2.5x2.5mm; Supplier: http://ww1.microchip.com/downloads/en/DeviceDoc/20005565B.pdf
footprint QFN-16-1EP_4x4mm_P0.65mm_EP2.5x2.5mm
pins: 1 GP0 (io), 2 GP1 (io), 3 ~{{RST}} (in), 4 URx (in), 5 UTx (out), 6 GP2 (io), 7 GP3 (io), 8 SDA (io), 9 SCL (io), 10 VUSB, 11 D- (io), 12 D+ (io), 13 VSS (power), 14 NC (in) hidden, 15 NC (in) hidden, 16 VDD (power), 17 NC (in) hidden

## MCP2221AxP
designator *  value MCP2221AxP
ki_keywords: USB I2C UART Converter Bridge; ki_description: USB to I2C/UART Protocol Converter with GPIO, DIP-14; ki_fp_filters: DIP*W7.62mm*; Footprint: Package_DIP:DIP-14_W7.62mm; Supplier: http://ww1.microchip.com/downloads/en/DeviceDoc/20005565B.pdf
footprint DIP-14_W7.62mm
pins: 1 VDD (power), 2 GP0 (io), 3 GP1 (io), 4 ~{{RST}} (in), 5 URx (in), 6 UTx (out), 7 GP2 (io), 8 GP3 (io), 9 SDA (io), 10 SCL (io), 11 VUSB, 12 D- (io), 13 D+ (io), 14 VSS (power)